# Altium schematic symbol library Integrated circuits.SchLib: 329 symbols (part 2 of 5)
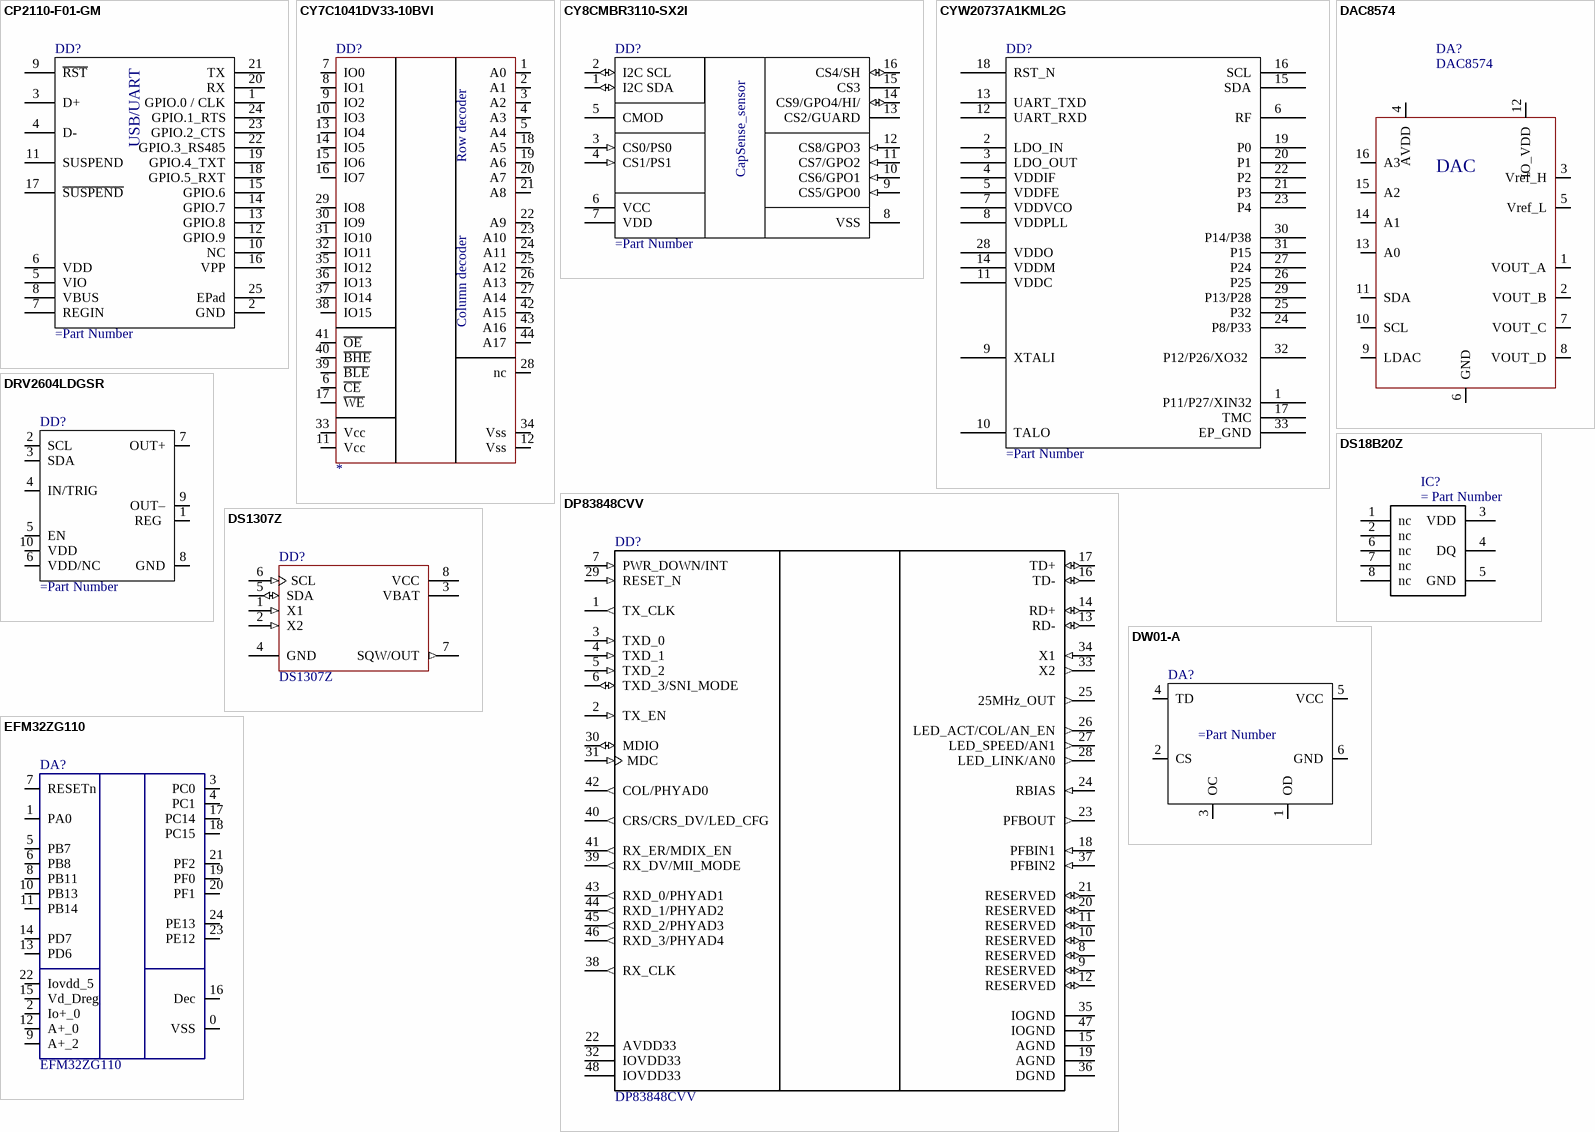
[diagram p26: symbols CP2110-F01-GM to EFM32ZG110]

## CP2110-F01-GM
designator DD?
pins: 1 GPIO.0 / CLK, 2 GND, 3 D+, 4 D-, 5 VIO, 6 VDD, 7 REGIN, 8 VBUS, 9 ~{RST}, 10 NC, 11 SUSPEND, 12 GPIO.9, 13 GPIO.8, 14 GPIO.7, 15 GPIO.6, 16 VPP, 17 ~{SUSPEND}, 18 GPIO.5_RXT, 19 GPIO.4_TXT, 20 RX, 21 TX, 22 GPIO.3_RS485, 23 GPIO.2_CTS, 24 GPIO.1_RTS, 25 EPad
text: USB/UART

## CY7C1041DV33-10BVI
designator DD?
pins: 1 A0, 2 A1, 3 A2, 4 A3, 5 A4, 6 ~{CE}, 7 IO0, 8 IO1, 9 IO2, 10 IO3, 11 Vcc, 12 Vss, 13 IO4, 14 IO5, 15 IO6, 16 IO7, 17 ~{WE}, 18 A5, 19 A6, 20 A7, 21 A8, 22 A9, 23 A10, 24 A11, 25 A12, 26 A13, 27 A14, 28 nc, 29 IO8, 30 IO9, 31 IO10, 32 IO11, 33 Vcc, 34 Vss, 35 IO12, 36 IO13, 37 IO14, 38 IO15, 39 ~{BLE}, 40 ~{BHE}, 41 ~{OE}, 42 A15, 43 A16, 44 A17
text: Row decoder; Column decoder

## CY8CMBR3110-SX2I
designator DD?
pins: 1 I2C SDA (io), 2 I2C SCL (io), 3 CS0/PS0 (in), 4 CS1/PS1 (in), 5 CMOD, 6 VCC, 7 VDD, 8 VSS, 9 CS5/GPO0 (in), 10  CS6/GPO1 (in), 11 CS7/GPO2 (in), 12 CS8/GPO3 (in), 13 CS2/GUARD, 14 CS9/GPO4/HI/ (io), 15 CS3, 16 CS4/SH (io)
text: CapSense_sensor

## CYW20737A1KML2G
designator DD?
pins: 1 P11/P27/XIN32, 2 LDO_IN , 3 LDO_OUT , 4 VDDIF , 5 VDDFE , 6 RF, 7 VDDVCO, 8 VDDPLL , 9 XTALI, 10 TALO, 11 VDDC, 12 UART_RXD , 13 UART_TXD, 14 VDDM, 15 SDA, 16 SCL, 17 TMC, 18 RST_N, 19 P0, 20 P1, 21 P3, 22 P2, 23 P4, 24 P8/P33, 25 P32, 26 P25, 27 P24, 28 VDDO, 29 P13/P28, 30 P14/P38, 31 P15, 32 P12/P26/XO32 , 33 EP_GND

## DAC8574
designator DA?
pins: 1 VOUT_A, 2 VOUT_B, 3 Vref_H, 4 AVDD, 5 Vref_L, 6 GND, 7 VOUT_C, 8 VOUT_D, 9 LDAC, 10 SCL, 11 SDA, 12 IO_VDD, 13 A0, 14 A1, 15 A2, 16 A3
text: DAC

## DP83848CVV
designator DD?
PHYTER® Commercial Temperature Single Port 10/100 Mb/s Ethernet Physical Layer Transceiver, 48-pin LQFP; Manufacturer: National Semiconductor; PackageTopMarking: NSUZXYTT*DP83848VV*VBC; PowerWise: N; CompType: Interface IC; Published: 4-Dec-2008; DatasheetVersion: May-2008; PackageVersion: revE, May-2007; PackageReference: VBH48A; Publisher: Altium Limited; PackageDescription: LQFP, 7 x 7 x 1.4mm, 48 Lead, 0.5mm Pitch; Supplier 1: Farnell; Supplier Part Number 1: 1286816; Supplier 2: Farnell; Supplier Part Number 2: 1528379; PartNumber: DP83848CVV; RoHS: Y; PinCount: 48; ComponentLink1Description: DP83848C Datasheet; ComponentLink1URL: http://www.national.com/ds/DP/DP83848C.pdf; ComponentLink2Description: DP83848C Web Page; ComponentLink2URL: http://www.national.com/pf/DP/DP83848C.html; ComponentLink3Description: VBH48A Package Page; ComponentLink3URL: http://www.national.com/packaging/folders/vbh48a.html
footprint VBH48A_N (Thin QFP, 48-Leads, Body 7x7mm, Pitch 0.5mm, IPC Medium Density)
footprint VBH48A_L (Thin QFP, 48-Leads, Body 7x7mm, Pitch 0.5mm, IPC High Density)
footprint VBH48A_M (Thin QFP, 48-Leads, Body 7x7mm, Pitch 0.5mm, IPC Low Density)
pins: 1 TX_CLK (out), 2 TX_EN (in), 3 TXD_0 (in), 4 TXD_1 (in), 5 TXD_2 (in), 6 TXD_3/SNI_MODE (io), 7 PWR_DOWN/INT (in), 8 RESERVED (io), 9 RESERVED (io), 10 RESERVED (io), 11 RESERVED (io), 12 RESERVED (io), 13 RD- (io), 14 RD+ (io), 15 AGND (power), 16 TD- (io), 17 TD+ (io), 18 PFBIN1 (in), 19 AGND (power), 20 RESERVED (io), 21 RESERVED (io), 22 AVDD33 (power), 23 PFBOUT (out), 24 RBIAS (in), 25 25MHz_OUT (out), 26 LED_ACT/COL/AN_EN (out), 27 LED_SPEED/AN1 (out), 28 LED_LINK/AN0 (out), 29 RESET_N (in), 30 MDIO (io), 31 MDC (in), 32 IOVDD33 (power), 33 X2 (out), 34 X1 (in), 35 IOGND (power), 36 DGND (power), 37 PFBIN2 (in), 38 RX_CLK (out), 39 RX_DV/MII_MODE (out), 40 CRS/CRS_DV/LED_CFG (out), 41 RX_ER/MDIX_EN (out), 42 COL/PHYAD0 (out), 43 RXD_0/PHYAD1 (out), 44 RXD_1/PHYAD2 (out), 45 RXD_2/PHYAD3 (out), 46 RXD_3/PHYAD4 (out), 47 IOGND (power), 48 IOVDD33 (power)

## DRV2604LDGSR
designator DD?
pins: 1 REG , 2 SCL, 3 SDA , 4 IN/TRIG, 5 EN , 6 VDD/NC, 7 OUT+, 8 GND, 9 OUT–, 10 VDD 

## DS18B20Z
designator IC?
Integrated Circuit; Manufacturer_Name: Maxim Integrated; Manufacturer_Part_Number: DS18B20Z+; Datasheet Link: http://datasheets.maximintegrated.com/en/ds/DS18B20.pdf; Height: 1.75mm; Arrow Part Number: DS18B20Z+; Mouser Part Number: 700-DS18B20Z; Mouser Price/Stock: https://www.mouser.co.uk/ProductDetail/Maxim-Integrated/DS18B20Z%2b?qs=7H2Jq%252ByxpJL2uDe5ZHUfmA%3D%3D
footprint SOIC127P600X175-8N
pins: 1 nc, 2 nc, 3 VDD, 4 DQ, 5 GND, 6 nc, 7 nc, 8 nc

## DS1307Z
designator DD?
64 X 8 Serial Real-Time Clock; Published: 13-Oct-2000; LatestRevisionDate: 13-Apr-2006; LatestRevisionNote: IPC-7351 Footprint Added.; DatasheetVersion: 10-Aug-1999; PackageVersion: 1999; PackageReference: SOIC8N; Publisher: Altium Limited; PackageDescription: 8-Pin Small Outline Integrated Circuit 1.27 mm Pitch; Code_IPC: SOIC127P600-8; ComponentLink1Description: Manufacturer Link; ComponentLink1URL: http://www.maxim-ic.com/; ComponentLink2Description: Datasheet; ComponentLink2URL: http://pdfserv.maxim-ic.com/en/ds/DS1307.pdf; ComponentLink3Description: Discontinuation Notice; ComponentLink3URL: http://www.maxim-ic.com/qa/pdfs/non-obsolescence-letter.pdf
pins: 1 X1 (in), 2 X2 (in), 3 VBAT (power), 4 GND (power), 5 SDA (io), 6 SCL (in), 7 SQW/OUT (out), 8 VCC (power)

## DW01-A
designator DA?
Integrated Circuit; Manufacturer_Name: SII Semiconductor; Manufacturer_Part_Number: DW01A-G; Datasheet Link: http://www.ic-fortune.com/upload/Download/DW01x-DS-17_EN.pdf; Height: 1.45mm
footprint SOT95P190X145-6N
pins: 1 OD, 2 CS, 3 OC, 4 TD, 5 VCC, 6 GND

## EFM32ZG110
designator DA?
IC MCU 32BIT 32K FLASH 24QFN
pins: 0 VSS "Ground.", 1 PA0, 2 Io+_0 "Digital IO power supply 0.", 3 PC0 "ACMP0_CH0", 4 PC1 "ACMP0_CH1", 5 PB7 "LFXTAL_P", 6 PB8 "LFXTAL_N", 7 RESETn "Reset input, active low.", 8 PB11 "IDAC0_OUT", 9 A+_2 "Analog power supply 2.", 10 PB13 "HFXTAL_P", 11 PB14 "HFXTAL_N", 12 A+_0 "Analog power supply 0.", 13 PD6 "ADC0_CH6", 14 PD7 "ADC0_CH7", 15 Vd_Dreg "Power supply for on-chip voltage regulator.", 16 Dec "Decouple output for on-chip voltage regulator. An external capacitance of size CDECOUPLE is required at this pin.", 17 PC14, 18 PC15, 19 PF0, 20 PF1, 21 PF2, 22 Iovdd_5 "Digital IO power supply 5.", 23 PE12, 24 PE13

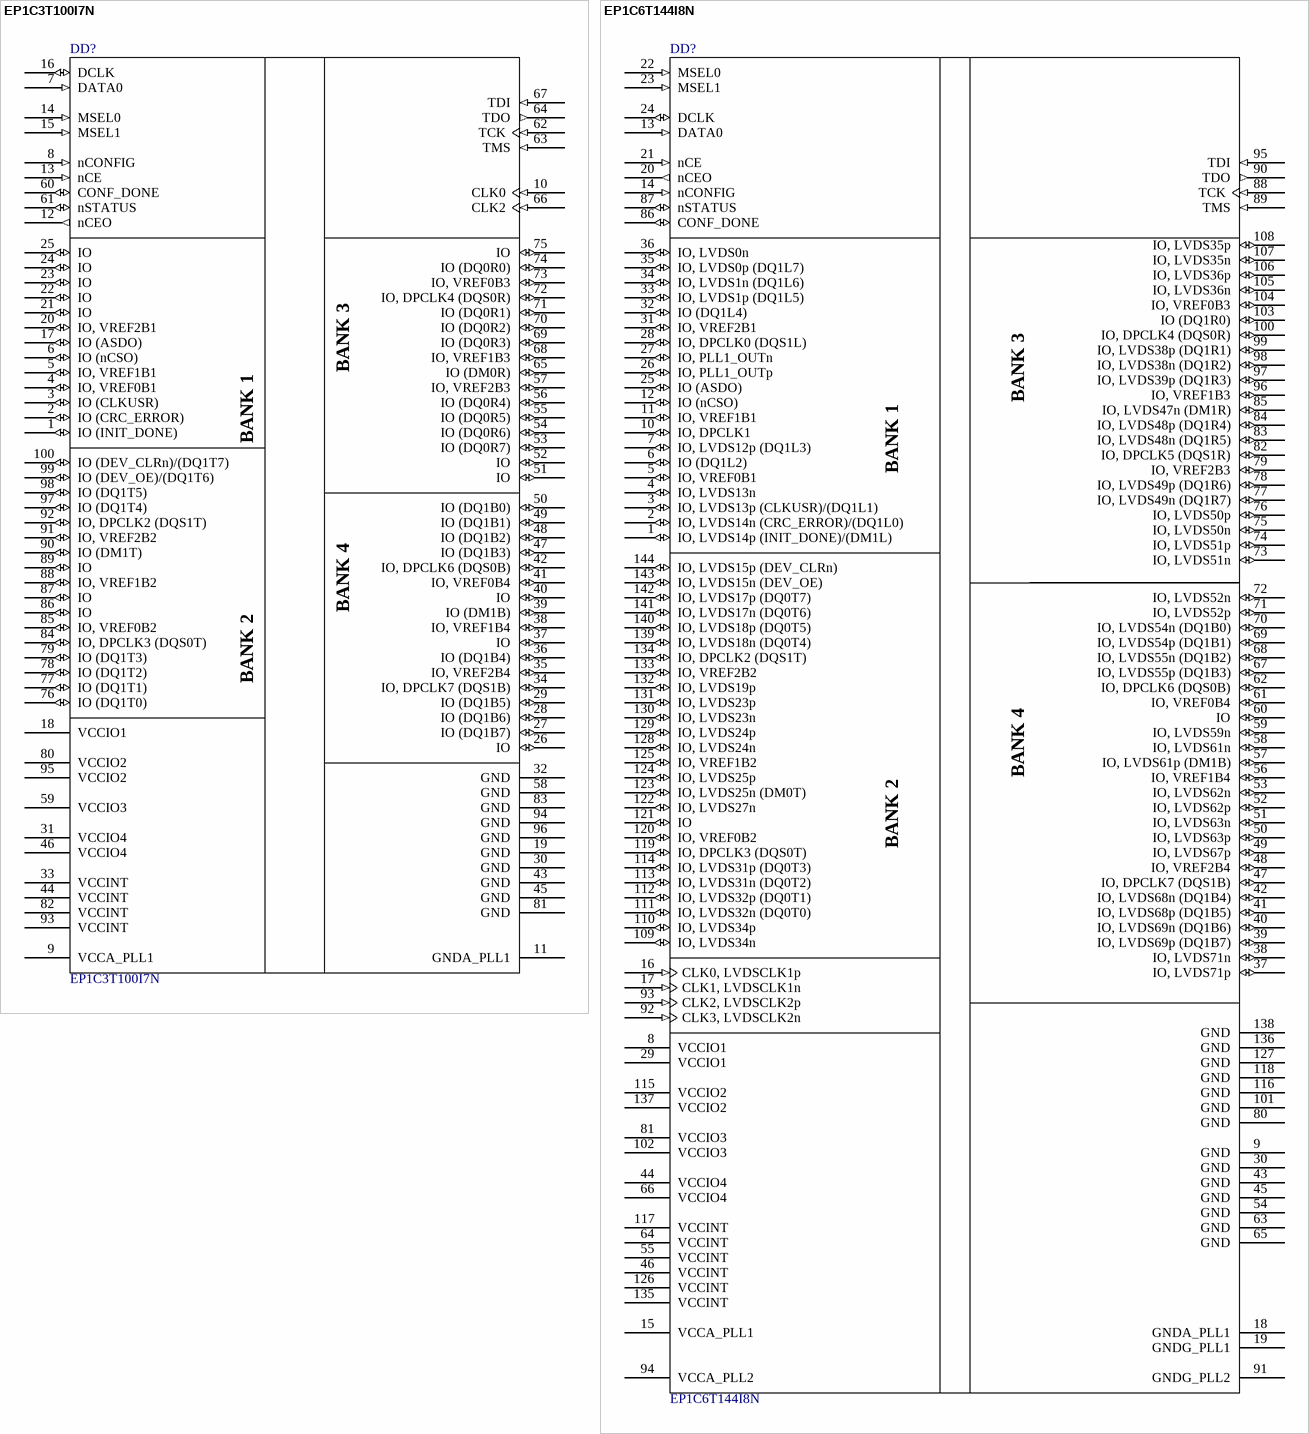
[diagram p8: symbols EP1C3T100I7N to EP1C6T144I8N]

## EP1C3T100I7N
designator DD?
Cyclone Family, 1.5V FPGA, 65 I/O Pins, 1 x PLL, Industrial Grade, Speed Grade 7, Pb-Free; Published: 18-Aug-2005; LatestRevisionDate: 13-Apr-2006; LatestRevisionNote: Pin 2 name fix, IPC-7351 Footprint Added.; DatasheetVersion: ver2.4, May-2008; PackageVersion: ver15.1, May-2008; PackageReference: TQFP100; Publisher: Altium Limited; PackageDescription: 100-Pin Plastic Thin Quad Flat Pack (TQFP100) - Wire Bond; Supplier 1: Digi-Key; Supplier Part Number 1: 544-1663-ND; Supplier 2: Farnell; Supplier Part Number 2: 1453494; Code_JEDEC: MS-026-AED; ComponentLink1Description: Manufacturer Link; ComponentLink1URL: http://www.altera.com/products/devices/cyclone/cyc-index.jsp; ComponentLink2Description: Handbook; ComponentLink2URL: http://www.altera.com/literature/hb/cyc/cyc_c5v1.pdf; ComponentLink3Description: Packaging Specification; ComponentLink3URL: http://www.altera.com/literature/ds/dspkg.pdf
footprint TQFP100_N (Thin QFP, 100-Leads, Body 14x14mm, Pitch 0.5mm, IPC Medium Density)
footprint TQFP100_L (Thin QFP, 100-Leads, Body 14x14mm, Pitch 0.5mm, IPC High Density)
footprint TQFP100_M (Thin QFP, 100-Leads, Body 14x14mm, Pitch 0.5mm, IPC Low Density)
3D model EP1C3-TQFP100 (100-Pin Plastic Thin Quad Flat Pack (TQFP100) - Wire Bond)
signal-integrity model 1c (Cyclone)
pins: 1 IO (INIT_DONE) (io), 2 IO (CRC_ERROR) (io), 3 IO (CLKUSR) (io), 4 IO, VREF0B1 (io), 5 IO, VREF1B1 (io), 6 IO (nCSO) (io), 7 DATA0 (in), 8 nCONFIG (in), 9 VCCA_PLL1 (power), 10 CLK0 (in), 11 GNDA_PLL1 (power), 12 nCEO (out), 13 nCE (in), 14 MSEL0 (in), 15 MSEL1 (in), 16 DCLK (io), 17 IO (ASDO) (io), 18 VCCIO1 (power), 19 GND (power), 20 IO, VREF2B1 (io), 21 IO (io), 22 IO (io), 23 IO (io), 24 IO (io), 25 IO (io), 26 IO (io), 27 IO (DQ1B7) (io), 28 IO (DQ1B6) (io), 29 IO (DQ1B5) (io), 30 GND (power), 31 VCCIO4 (power), 32 GND (power), 33 VCCINT (power), 34 IO, DPCLK7 (DQS1B) (io), 35 IO, VREF2B4 (io), 36 IO (DQ1B4) (io), 37 IO (io), 38 IO, VREF1B4 (io), 39 IO (DM1B) (io), 40 IO (io), 41 IO, VREF0B4 (io), 42 IO, DPCLK6 (DQS0B) (io), 43 GND (power), 44 VCCINT (power), 45 GND (power), 46 VCCIO4 (power), 47 IO (DQ1B3) (io), 48 IO (DQ1B2) (io), 49 IO (DQ1B1) (io), 50 IO (DQ1B0) (io), 51 IO (io), 52 IO (io), 53 IO (DQ0R7) (io), 54 IO (DQ0R6) (io), 55 IO (DQ0R5) (io), 56 IO (DQ0R4) (io), 57 IO, VREF2B3 (io), 58 GND (power), 59 VCCIO3 (power), 60 CONF_DONE (io), 61 nSTATUS (io), 62 TCK (in), 63 TMS (in), 64 TDO (out), 65 IO (DM0R) (io), 66 CLK2 (in), 67 TDI (in), 68 IO, VREF1B3 (io), 69 IO (DQ0R3) (io), 70 IO (DQ0R2) (io), 71 IO (DQ0R1) (io), 72 IO, DPCLK4 (DQS0R) (io), 73 IO, VREF0B3 (io), 74 IO (DQ0R0) (io), 75 IO (io), 76 IO (DQ1T0) (io), 77 IO (DQ1T1) (io), 78 IO (DQ1T2) (io), 79 IO (DQ1T3) (io), 80 VCCIO2 (power), 81 GND (power), 82 VCCINT (power), 83 GND (power), 84 IO, DPCLK3 (DQS0T) (io), 85 IO, VREF0B2 (io), 86 IO (io), 87 IO (io), 88 IO, VREF1B2 (io), 89 IO (io), 90 IO (DM1T) (io), 91 IO, VREF2B2 (io), 92 IO, DPCLK2 (DQS1T) (io), 93 VCCINT (power), 94 GND (power), 95 VCCIO2 (power), 96 GND (power), 97 IO (DQ1T4) (io), 98 IO (DQ1T5) (io), 99 IO (DEV_OE)/(DQ1T6) (io), 100 IO (DEV_CLRn)/(DQ1T7) (io)
text: BANK 1; BANK 3; BANK 2; BANK 4

## EP1C6T144I8N
designator DD?
Cyclone Family, 1.5V FPGA, 98 I/O Pins, 2 x PLLs, Industrial Grade, Speed Grade 8, Pb-Free; Published: 18-Aug-2005; LatestRevisionDate: 13-Apr-2006; LatestRevisionNote: Pin 2 name fix, IPC-7351 Footprint Added.; DatasheetVersion: ver2.4, May-2008; PackageVersion: ver15.4, Dec-2008; PackageReference: TQFP144; Publisher: Altium Limited; PackageDescription: 144-Pin Plastic Thin Quad Flat Pack (TQFP144) - Wire Bond; Code_JEDEC: MS-026-BFB; ComponentLink1Description: Manufacturer Link; ComponentLink1URL: http://www.altera.com/products/devices/cyclone/cyc-index.jsp; ComponentLink2Description: Handbook; ComponentLink2URL: http://www.altera.com/literature/hb/cyc/cyc_c5v1.pdf; ComponentLink3Description: Packaging Specification; ComponentLink3URL: http://www.altera.com/literature/ds/dspkg.pdf
footprint TQFP144_N (Thin QFP, 144-Leads, Body 20x20mm, Pitch 0.5mm, IPC Medium Density)
footprint TQFP144_L (Thin QFP, 144-Leads, Body 20x20mm, Pitch 0.5mm, IPC High Density)
footprint TQFP144_M (Thin QFP, 144-Leads, Body 20x20mm, Pitch 0.5mm, IPC Low Density)
3D model EP1C6-TQFP144 (144-Pin Plastic Thin Quad Flat Pack (TQFP144) - Wire Bond)
signal-integrity model 1c (Cyclone)
pins: 1 IO, LVDS14p (INIT_DONE)/(DM1L) (io), 2 IO, LVDS14n (CRC_ERROR)/(DQ1L0) (io), 3 IO, LVDS13p (CLKUSR)/(DQ1L1) (io), 4 IO, LVDS13n (io), 5 IO, VREF0B1 (io), 6 IO (DQ1L2) (io), 7 IO, LVDS12p (DQ1L3) (io), 8 VCCIO1 (power), 9 GND (power), 10 IO, DPCLK1 (io), 11 IO, VREF1B1 (io), 12 IO (nCSO) (io), 13 DATA0 (in), 14 nCONFIG (in), 15 VCCA_PLL1 (power), 16 CLK0, LVDSCLK1p (in), 17 CLK1, LVDSCLK1n (in), 18 GNDA_PLL1 (power), 19 GNDG_PLL1 (power), 20 nCEO (out), 21 nCE (in), 22 MSEL0 (in), 23 MSEL1 (in), 24 DCLK (io), 25 IO (ASDO) (io), 26 IO, PLL1_OUTp (io), 27 IO, PLL1_OUTn (io), 28 IO, DPCLK0 (DQS1L) (io), 29 VCCIO1 (power), 30 GND (power), 31 IO, VREF2B1 (io), 32 IO (DQ1L4) (io), 33 IO, LVDS1p (DQ1L5) (io), 34 IO, LVDS1n (DQ1L6) (io), 35 IO, LVDS0p (DQ1L7) (io), 36 IO, LVDS0n (io), 37 IO, LVDS71p (io), 38 IO, LVDS71n (io), 39 IO, LVDS69p (DQ1B7) (io), 40 IO, LVDS69n (DQ1B6) (io), 41 IO, LVDS68p (DQ1B5) (io), 42 IO, LVDS68n (DQ1B4) (io), 43 GND (power), 44 VCCIO4 (power), 45 GND (power), 46 VCCINT (power), 47 IO, DPCLK7 (DQS1B) (io), 48 IO, VREF2B4 (io), 49 IO, LVDS67p (io), 50 IO, LVDS63p (io), 51 IO, LVDS63n (io), 52 IO, LVDS62p (io), 53 IO, LVDS62n (io), 54 GND (power), 55 VCCINT (power), 56 IO, VREF1B4 (io), 57 IO, LVDS61p (DM1B) (io), 58 IO, LVDS61n (io), 59 IO, LVDS59n (io), 60 IO (io), 61 IO, VREF0B4 (io), 62 IO, DPCLK6 (DQS0B) (io), 63 GND (power), 64 VCCINT (power), 65 GND (power), 66 VCCIO4 (power), 67 IO, LVDS55p (DQ1B3) (io), 68 IO, LVDS55n (DQ1B2) (io), 69 IO, LVDS54p (DQ1B1) (io), 70 IO, LVDS54n (DQ1B0) (io), 71 IO, LVDS52p (io), 72 IO, LVDS52n (io), 73 IO, LVDS51n (io), 74 IO, LVDS51p (io), 75 IO, LVDS50n (io), 76 IO, LVDS50p (io), 77 IO, LVDS49n (DQ1R7) (io), 78 IO, LVDS49p (DQ1R6) (io), 79 IO, VREF2B3 (io), 80 GND (power), 81 VCCIO3 (power), 82 IO, DPCLK5 (DQS1R) (io), 83 IO, LVDS48n (DQ1R5) (io), 84 IO, LVDS48p (DQ1R4) (io), 85 IO, LVDS47n (DM1R) (io), 86 CONF_DONE (io), 87 nSTATUS (io), 88 TCK (in), 89 TMS (in), 90 TDO (out), 91 GNDG_PLL2 (power), 92 CLK3, LVDSCLK2n (in), 93 CLK2, LVDSCLK2p (in), 94 VCCA_PLL2 (power), 95 TDI (in), 96 IO, VREF1B3 (io), 97 IO, LVDS39p (DQ1R3) (io), 98 IO, LVDS38n (DQ1R2) (io), 99 IO, LVDS38p (DQ1R1) (io), 100 IO, DPCLK4 (DQS0R) (io), 101 GND (power), 102 VCCIO3 (power), 103 IO (DQ1R0) (io), 104 IO, VREF0B3 (io), 105 IO, LVDS36n (io), 106 IO, LVDS36p (io), 107 IO, LVDS35n (io), 108 IO, LVDS35p (io), 109 IO, LVDS34n (io), 110 IO, LVDS34p (io), 111 IO, LVDS32n (DQ0T0) (io), 112 IO, LVDS32p (DQ0T1) (io), 113 IO, LVDS31n (DQ0T2) (io), 114 IO, LVDS31p (DQ0T3) (io), 115 VCCIO2 (power), 116 GND (power), 117 VCCINT (power), 118 GND (power), 119 IO, DPCLK3 (DQS0T) (io), 120 IO, VREF0B2 (io), 121 IO (io), 122 IO, LVDS27n (io), 123 IO, LVDS25n (DM0T) (io), 124 IO, LVDS25p (io), 125 IO, VREF1B2 (io), 126 VCCINT (power), 127 GND (power), 128 IO, LVDS24n (io), 129 IO, LVDS24p (io), 130 IO, LVDS23n (io), 131 IO, LVDS23p (io), 132 IO, LVDS19p (io), 133 IO, VREF2B2 (io), 134 IO, DPCLK2 (DQS1T) (io), 135 VCCINT (power), 136 GND (power), 137 VCCIO2 (power), 138 GND (power), 139 IO, LVDS18n (DQ0T4) (io), 140 IO, LVDS18p (DQ0T5) (io), 141 IO, LVDS17n (DQ0T6) (io), 142 IO, LVDS17p (DQ0T7) (io), 143 IO, LVDS15n (DEV_OE) (io), 144 IO, LVDS15p (DEV_CLRn) (io)
text: BANK 1; BANK 3; BANK 2; BANK 4

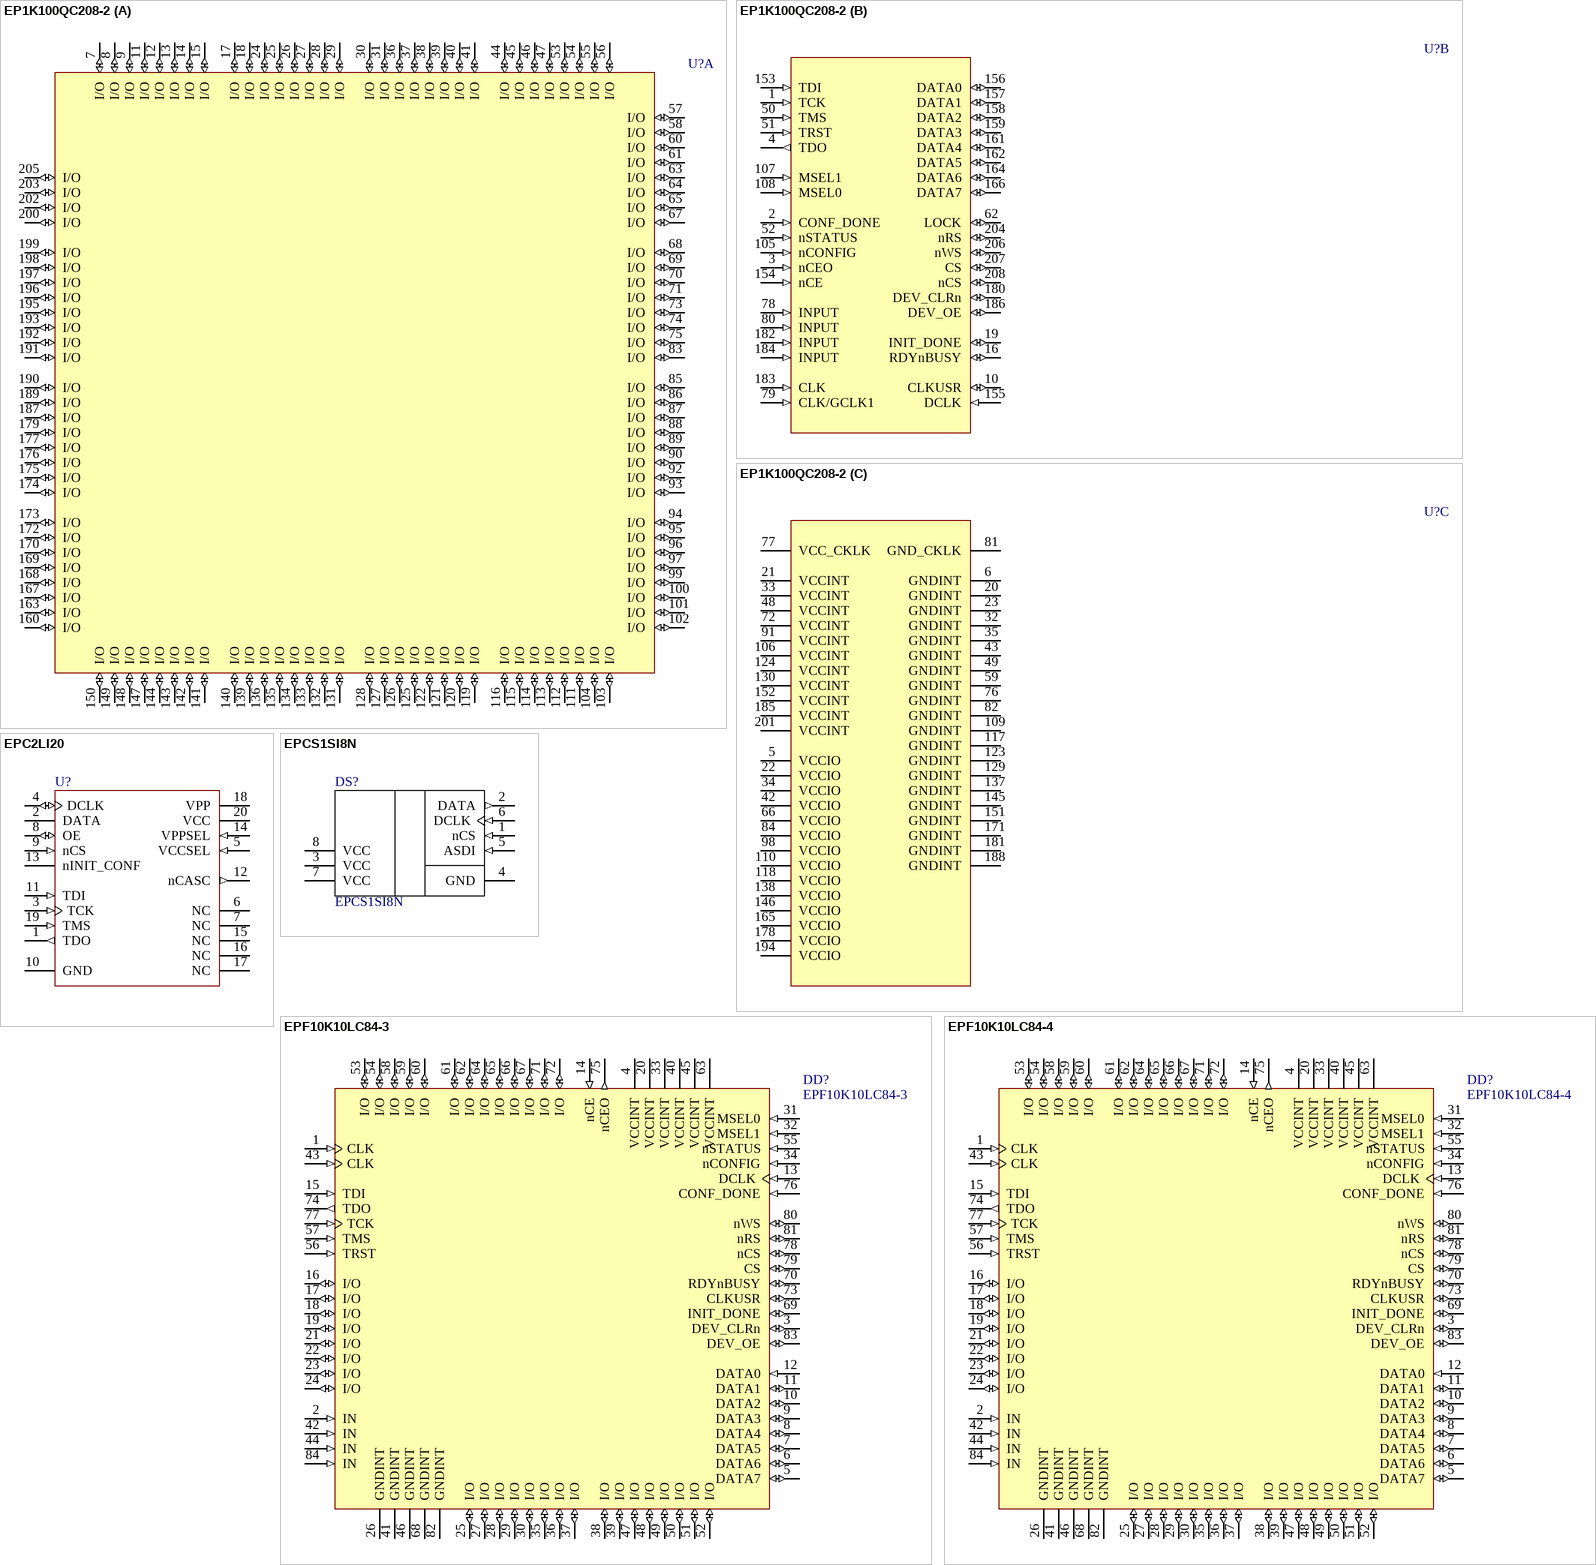
[diagram p9: symbols EP1K100QC208-2 to EPF10K10LC84-4]

## EP1K100QC208-2
designator U?
ACEX 1K PLD with 147 I/O Pins, 208-Pin PQFP, Commercial Grade, Speed Grade 2; Published: 17-Jul-2002; LatestRevisionDate: 13-Apr-2006; LatestRevisionNote: IPC-7351 Footprint Added.; DatasheetVersion: ver3.4, May-2003; PackageVersion: ver15.4, Dec-2008; PackageReference: PQFP208; Publisher: Altium Limited; PackageDescription: 208-Pin Plastic Quad Flat Pack (PQFP208) - Wire Bond; Supplier 1: Digi-Key; Supplier Part Number 1: 544-1001-ND; Code_JEDEC: MS-029-FA-1; ComponentLink1Description: Manufacturer Link; ComponentLink1URL: http://www.altera.com/products/devices/acex/acx-index.html; ComponentLink2Description: Datasheet; ComponentLink2URL: http://www.altera.com/literature/ds/acex.pdf
footprint PQFP208_N (Shrink QFP, 208-Leads, Body 28x28mm, Pitch 0.5mm, IPC Medium Density)
footprint PQFP208_L (Shrink QFP, 208-Leads, Body 28x28mm, Pitch 0.5mm, IPC High Density)
footprint PQFP208_M (Shrink QFP, 208-Leads, Body 28x28mm, Pitch 0.5mm, IPC Low Density)
3D model EP1K100-PQFP208 (208-Pin Plastic Quad Flat Pack (PQFP208) - Wire Bond)
part A pins: 7 I/O (io), 8 I/O (io), 9 I/O (io), 11 I/O (io), 12 I/O (io), 13 I/O (io), 14 I/O (io), 15 I/O (io), 17 I/O (io), 18 I/O (io), 24 I/O (io), 25 I/O (io), 26 I/O (io), 27 I/O (io), 28 I/O (io), 29 I/O (io), 30 I/O (io), 31 I/O (io), 36 I/O (io), 37 I/O (io), 38 I/O (io), 39 I/O (io), 40 I/O (io), 41 I/O (io), 44 I/O (io), 45 I/O (io), 46 I/O (io), 47 I/O (io), 53 I/O (io), 54 I/O (io), 55 I/O (io), 56 I/O (io), 57 I/O (io), 58 I/O (io), 60 I/O (io), 61 I/O (io), 63 I/O (io), 64 I/O (io), 65 I/O (io), 67 I/O (io), 68 I/O (io), 69 I/O (io), 70 I/O (io), 71 I/O (io), 73 I/O (io), 74 I/O (io), 75 I/O (io), 83 I/O (io), 85 I/O (io), 86 I/O (io), 87 I/O (io), 88 I/O (io), 89 I/O (io), 90 I/O (io), 92 I/O (io), 93 I/O (io), 94 I/O (io), 95 I/O (io), 96 I/O (io), 97 I/O (io), 99 I/O (io), 100 I/O (io), 101 I/O (io), 102 I/O (io), 103 I/O (io), 104 I/O (io), 111 I/O (io), 112 I/O (io), 113 I/O (io), 114 I/O (io), 115 I/O (io), 116 I/O (io), 119 I/O (io), 120 I/O (io), 121 I/O (io), 122 I/O (io), 125 I/O (io), 126 I/O (io), 127 I/O (io), 128 I/O (io), 131 I/O (io), 132 I/O (io), 133 I/O (io), 134 I/O (io), 135 I/O (io), 136 I/O (io), 139 I/O (io), 140 I/O (io), 141 I/O (io), 142 I/O (io), 143 I/O (io), 144 I/O (io), 147 I/O (io), 148 I/O (io), 149 I/O (io), 150 I/O (io), 160 I/O (io), 163 I/O (io), 167 I/O (io), 168 I/O (io), 169 I/O (io), 170 I/O (io), 172 I/O (io), 173 I/O (io), 174 I/O (io), 175 I/O (io), 176 I/O (io), 177 I/O (io), 179 I/O (io), 187 I/O (io), 189 I/O (io), 190 I/O (io), 191 I/O (io), 192 I/O (io), 193 I/O (io), 195 I/O (io), 196 I/O (io), 197 I/O (io), 198 I/O (io), 199 I/O (io), 200 I/O (io), 202 I/O (io), 203 I/O (io), 205 I/O (io)
part B pins: 1 TCK (in), 2 CONF_DONE (in), 3 nCEO (in), 4 TDO (out), 10 CLKUSR (io), 16 RDYnBUSY (io), 19 INIT_DONE (io), 50 TMS (in), 51 TRST (in), 52 nSTATUS (in), 62 LOCK (io), 78 INPUT (in), 79 CLK/GCLK1 (in), 80 INPUT (in), 105 nCONFIG (in), 107 MSEL1 (in), 108 MSEL0 (in), 153 TDI (in), 154 nCE (in), 155 DCLK (in), 156 DATA0 (io), 157 DATA1 (io), 158 DATA2 (io), 159 DATA3 (io), 161 DATA4 (io), 162 DATA5 (io), 164 DATA6 (io), 166 DATA7 (io), 180 DEV_CLRn (io), 182 INPUT (in), 183 CLK (in), 184 INPUT (in), 186 DEV_OE (io), 204 nRS (io), 206 nWS (io), 207 CS (io), 208 nCS (io)
part C pins: 5 VCCIO (power), 6 GNDINT (power), 20 GNDINT (power), 21 VCCINT (power), 22 VCCIO (power), 23 GNDINT (power), 32 GNDINT (power), 33 VCCINT (power), 34 VCCIO (power), 35 GNDINT (power), 42 VCCIO (power), 43 GNDINT (power), 48 VCCINT (power), 49 GNDINT (power), 59 GNDINT (power), 66 VCCIO (power), 72 VCCINT (power), 76 GNDINT (power), 77 VCC_CKLK (power), 81 GND_CKLK (power), 82 GNDINT (power), 84 VCCIO (power), 91 VCCINT (power), 98 VCCIO (power), 106 VCCINT (power), 109 GNDINT (power), 110 VCCIO (power), 117 GNDINT (power), 118 VCCIO (power), 123 GNDINT (power), 124 VCCINT (power), 129 GNDINT (power), 130 VCCINT (power), 137 GNDINT (power), 138 VCCIO (power), 145 GNDINT (power), 146 VCCIO (power), 151 GNDINT (power), 152 VCCINT (power), 165 VCCIO (power), 171 GNDINT (power), 178 VCCIO (power), 181 GNDINT (power), 185 VCCINT (power), 188 GNDINT (power), 194 VCCIO (power), 201 VCCINT (power)

## EPC2LI20
designator U?
EPC2 Series, In-system programmable 3.3 or 5V configuration device, 20-Pin PLCC, 1.6-Megabit, Industrial Grade; Configures: Stratix II, Stratix, Stratix GX, Cyclone II, Cyclone, APEX II, APEX, FLEX, Mercury, ACEX, and Excalibur Devices; Published: 17-Sep-2003; LatestRevisionDate: 13-Apr-2006; LatestRevisionNote: IPC-7351 Footprint Added.; DatasheetVersion: ver2.0, Oct-2003; PackageVersion: ver14.2, Oct-2005; PackageReference: PLCC20; Publisher: Altium Limited; PackageDescription: 20-Pin Plastic J-Lead Chip Carrier (PLCC20); Supplier 1: Digi-Key; Supplier Part Number 1: 544-1234-5-ND; Code_JEDEC: MS-018-AA; Code_IPC: PLCC-20; ComponentLink1Description: Manufacturer Link; ComponentLink1URL: http://www.altera.com/products/devices/config/cfg-index.html; ComponentLink2Description: Configuration Handbook; ComponentLink2URL: http://www.altera.com/literature/hb/cfg/config_handbook.pdf; ComponentLink3Description: Pinout Specification; ComponentLink3URL: http://www.altera.com/literature/hb/cfg/cfg_cf52004.pdf; ComponentLink4Description: Packaging Specification; ComponentLink4URL: http://www.altera.com/literature/ds/dspkg.pdf
footprint PLCC20_N (Leaded Chip Carrier, 20-Leads, Body 9x9mm, Pitch 1.27mm, IPC Medium Density)
footprint PLCC20_L (Leaded Chip Carrier, 20-Leads, Body 9x9mm, Pitch 1.27mm, IPC High Density)
footprint PLCC20_M (Leaded Chip Carrier, 20-Leads, Body 9x9mm, Pitch 1.27mm, IPC Low Density)
3D model EPC2-PLCC20 (20-Pin Plastic J-Lead Chip Carrier (PLCC20))
pins: 1 TDO (out) "JTAG data output pin", 2 DATA (hiz) "Serial data out", 3 TCK (in) "JTAG clock pin", 4 DCLK (io), 5 VCCSEL (in) "Mode select for VCC", 6 NC "No Connect", 7 NC "No Connect", 8 OE (io) "Output enable, and active low reset", 9 nCS (in) "Active low, chip select input", 10 GND (power) "Ground", 11 TDI (in) "JTAG data input pin", 12 nCASC (out) "Active low, cascade select output", 13 nINIT_CONF (oc), 14 VPPSEL (in) "Mode select for VPP", 15 NC "No Connect", 16 NC "No Connect", 17 NC "No Connect", 18 VPP (power) "Programming power pin", 19 TMS (in) "JTAG mode select pin", 20 VCC (power) "Power Supply"

## EPCS1SI8N
designator DS?
EPCS1 Series, In-system programmable 3.3V serial configuration device, 8-Pin SOIC, 1-Megabit, Industrial Grade; Configures: Cyclone II, Stratix II, & Cyclone Devices; Published: 17-Sep-2003; LatestRevisionDate: 13-Apr-2006; LatestRevisionNote: IPC-7351 Footprint Added.; DatasheetVersion: ver2.0, Oct-2003; PackageVersion: ver14.2, Oct-2005; PackageReference: SOIC8; Publisher: Altium Limited; PackageDescription: 8-Pin Small Outline Integrated Circuit Package (SOIC8); Supplier 1: Digi-Key; Supplier Part Number 1: 544-1241-5-ND; Code_JEDEC: MS-012-AA; Code_IPC: SOIC127P600-8; ComponentLink1Description: Manufacturer Link; ComponentLink1URL: http://www.altera.com/products/devices/config/cfg-index.html; ComponentLink2Description: Configuration Handbook; ComponentLink2URL: http://www.altera.com/literature/hb/cfg/config_handbook.pdf; ComponentLink3Description: Pinout Specification; ComponentLink3URL: http://www.altera.com/literature/hb/cfg/cyc_c51014.pdf; ComponentLink4Description: Packaging Specification; ComponentLink4URL: http://www.altera.com/literature/ds/dspkg.pdf
footprint SOIC8_N (SOIC, 8-Leads, Body 4.9x3.9mm, Pitch 1.27mm, IPC Medium Density)
footprint SOIC8_L (SOIC, 8-Leads, Body 4.9x3.9mm, Pitch 1.27mm, IPC High Density)
footprint SOIC8_M (SOIC, 8-Leads, Body 4.9x3.9mm, Pitch 1.27mm, IPC Low Density)
3D model SOIC8 (8-Pin Small Outline Integrated Circuit Package (SOIC8))
pins: 1 nCS (in) "Active low, chip select input", 2 DATA (out) "Serial data out", 3 VCC (power) "3.3V supply", 4 GND (power) "Ground", 5 ASDI (in) "AS data in", 6 DCLK (in) "Provides timing of the serial interface", 7 VCC (power) "3.3V supply", 8 VCC (power) "3.3V supply"

## EPF10K10LC84-3
designator DD?
FLEX EPF10K10 5.0V Embedded PLD, 59 User IO Pins, 84-Pin PLCC, Speed Grade 3, Commercial Grade; Published: 24-Nov-2000; LatestRevisionDate: 13-Apr-2006; LatestRevisionNote: IPC-7351 Footprint Added.; DatasheetVersion: ver4.2, Jan-2003; PackageVersion: ver14.3, Jul-2006; PackageReference: PLCC84; Publisher: Altium Limited; PackageDescription: 84-Pin Plastic J-Lead Chip Carrier (PLCC84); Supplier 1: Digi-Key; Supplier Part Number 1: 544-2194-5-ND; Code_JEDEC: MS-018-AF; Code_IPC: PLCC-84; ComponentLink1Description: Manufacturer Link; ComponentLink1URL: http://www.altera.com/products/devices/flex10k/f10-index.html; ComponentLink2Description: Datasheet; ComponentLink2URL: http://www.altera.com/literature/ds/dsf10k.pdf
pins: 1 CLK (in), 2 IN (in), 3 DEV_CLRn (io), 4 VCCINT (power), 5 DATA7 (io), 6 DATA6 (io), 7 DATA5 (io), 8 DATA4 (io), 9 DATA3 (io), 10 DATA2 (io), 11 DATA1 (io), 12 DATA0 (in), 13 DCLK (in), 14 nCE (in), 15 TDI (in), 16 I/O (io), 17 I/O (io), 18 I/O (io), 19 I/O (io), 20 VCCINT (power), 21 I/O (io), 22 I/O (io), 23 I/O (io), 24 I/O (io), 25 I/O (io), 26 GNDINT (power), 27 I/O (io), 28 I/O (io), 29 I/O (io), 30 I/O (io), 31 MSEL0 (in), 32 MSEL1 (in), 33 VCCINT (power), 34 nCONFIG (in), 35 I/O (io), 36 I/O (io), 37 I/O (io), 38 I/O (io), 39 I/O (io), 40 VCCINT (power), 41 GNDINT (power), 42 IN (in), 43 CLK (in), 44 IN (in), 45 VCCINT (power), 46 GNDINT (power), 47 I/O (io), 48 I/O (io), 49 I/O (io), 50 I/O (io), 51 I/O (io), 52 I/O (io), 53 I/O (io), 54 I/O (io), 55 nSTATUS (in), 56 TRST (in), 57 TMS (in), 58 I/O (io), 59 I/O (io), 60 I/O (io), 61 I/O (io), 62 I/O (io), 63 VCCINT (power), 64 I/O (io), 65 I/O (io), 66 I/O (io), 67 I/O (io), 68 GNDINT (power), 69 INIT_DONE (io), 70 RDYnBUSY (io), 71 I/O (io), 72 I/O (io), 73 CLKUSR (io), 74 TDO (out), 75 nCEO (out), 76 CONF_DONE (in), 77 TCK (in), 78 nCS (io), 79 CS (io), 80 nWS (io), 81 nRS (io), 82 GNDINT (power), 83 DEV_OE (io), 84 IN (in)

## EPF10K10LC84-4
designator DD?
FLEX EPF10K10 5.0V Embedded PLD, 59 User IO Pins, 84-Pin PLCC, Speed Grade 4, Commercial Grade; Published: 24-Nov-2000; LatestRevisionDate: 13-Apr-2006; LatestRevisionNote: IPC-7351 Footprint Added.; DatasheetVersion: ver4.2, Jan-2003; PackageVersion: ver14.3, Jul-2006; PackageReference: PLCC84; Publisher: Altium Limited; PackageDescription: 84-Pin Plastic J-Lead Chip Carrier (PLCC84); Supplier 1: Digi-Key; Supplier Part Number 1: 544-1937-5-ND; Code_JEDEC: MS-018-AF; Code_IPC: PLCC-84; ComponentLink1Description: Manufacturer Link; ComponentLink1URL: http://www.altera.com/products/devices/flex10k/f10-index.html; ComponentLink2Description: Datasheet; ComponentLink2URL: http://www.altera.com/literature/ds/dsf10k.pdf
pins: 1 CLK (in), 2 IN (in), 3 DEV_CLRn (io), 4 VCCINT (power), 5 DATA7 (io), 6 DATA6 (io), 7 DATA5 (io), 8 DATA4 (io), 9 DATA3 (io), 10 DATA2 (io), 11 DATA1 (io), 12 DATA0 (in), 13 DCLK (in), 14 nCE (in), 15 TDI (in), 16 I/O (io), 17 I/O (io), 18 I/O (io), 19 I/O (io), 20 VCCINT (power), 21 I/O (io), 22 I/O (io), 23 I/O (io), 24 I/O (io), 25 I/O (io), 26 GNDINT (power), 27 I/O (io), 28 I/O (io), 29 I/O (io), 30 I/O (io), 31 MSEL0 (in), 32 MSEL1 (in), 33 VCCINT (power), 34 nCONFIG (in), 35 I/O (io), 36 I/O (io), 37 I/O (io), 38 I/O (io), 39 I/O (io), 40 VCCINT (power), 41 GNDINT (power), 42 IN (in), 43 CLK (in), 44 IN (in), 45 VCCINT (power), 46 GNDINT (power), 47 I/O (io), 48 I/O (io), 49 I/O (io), 50 I/O (io), 51 I/O (io), 52 I/O (io), 53 I/O (io), 54 I/O (io), 55 nSTATUS (in), 56 TRST (in), 57 TMS (in), 58 I/O (io), 59 I/O (io), 60 I/O (io), 61 I/O (io), 62 I/O (io), 63 VCCINT (power), 64 I/O (io), 65 I/O (io), 66 I/O (io), 67 I/O (io), 68 GNDINT (power), 69 INIT_DONE (io), 70 RDYnBUSY (io), 71 I/O (io), 72 I/O (io), 73 CLKUSR (io), 74 TDO (out), 75 nCEO (out), 76 CONF_DONE (in), 77 TCK (in), 78 nCS (io), 79 CS (io), 80 nWS (io), 81 nRS (io), 82 GNDINT (power), 83 DEV_OE (io), 84 IN (in)

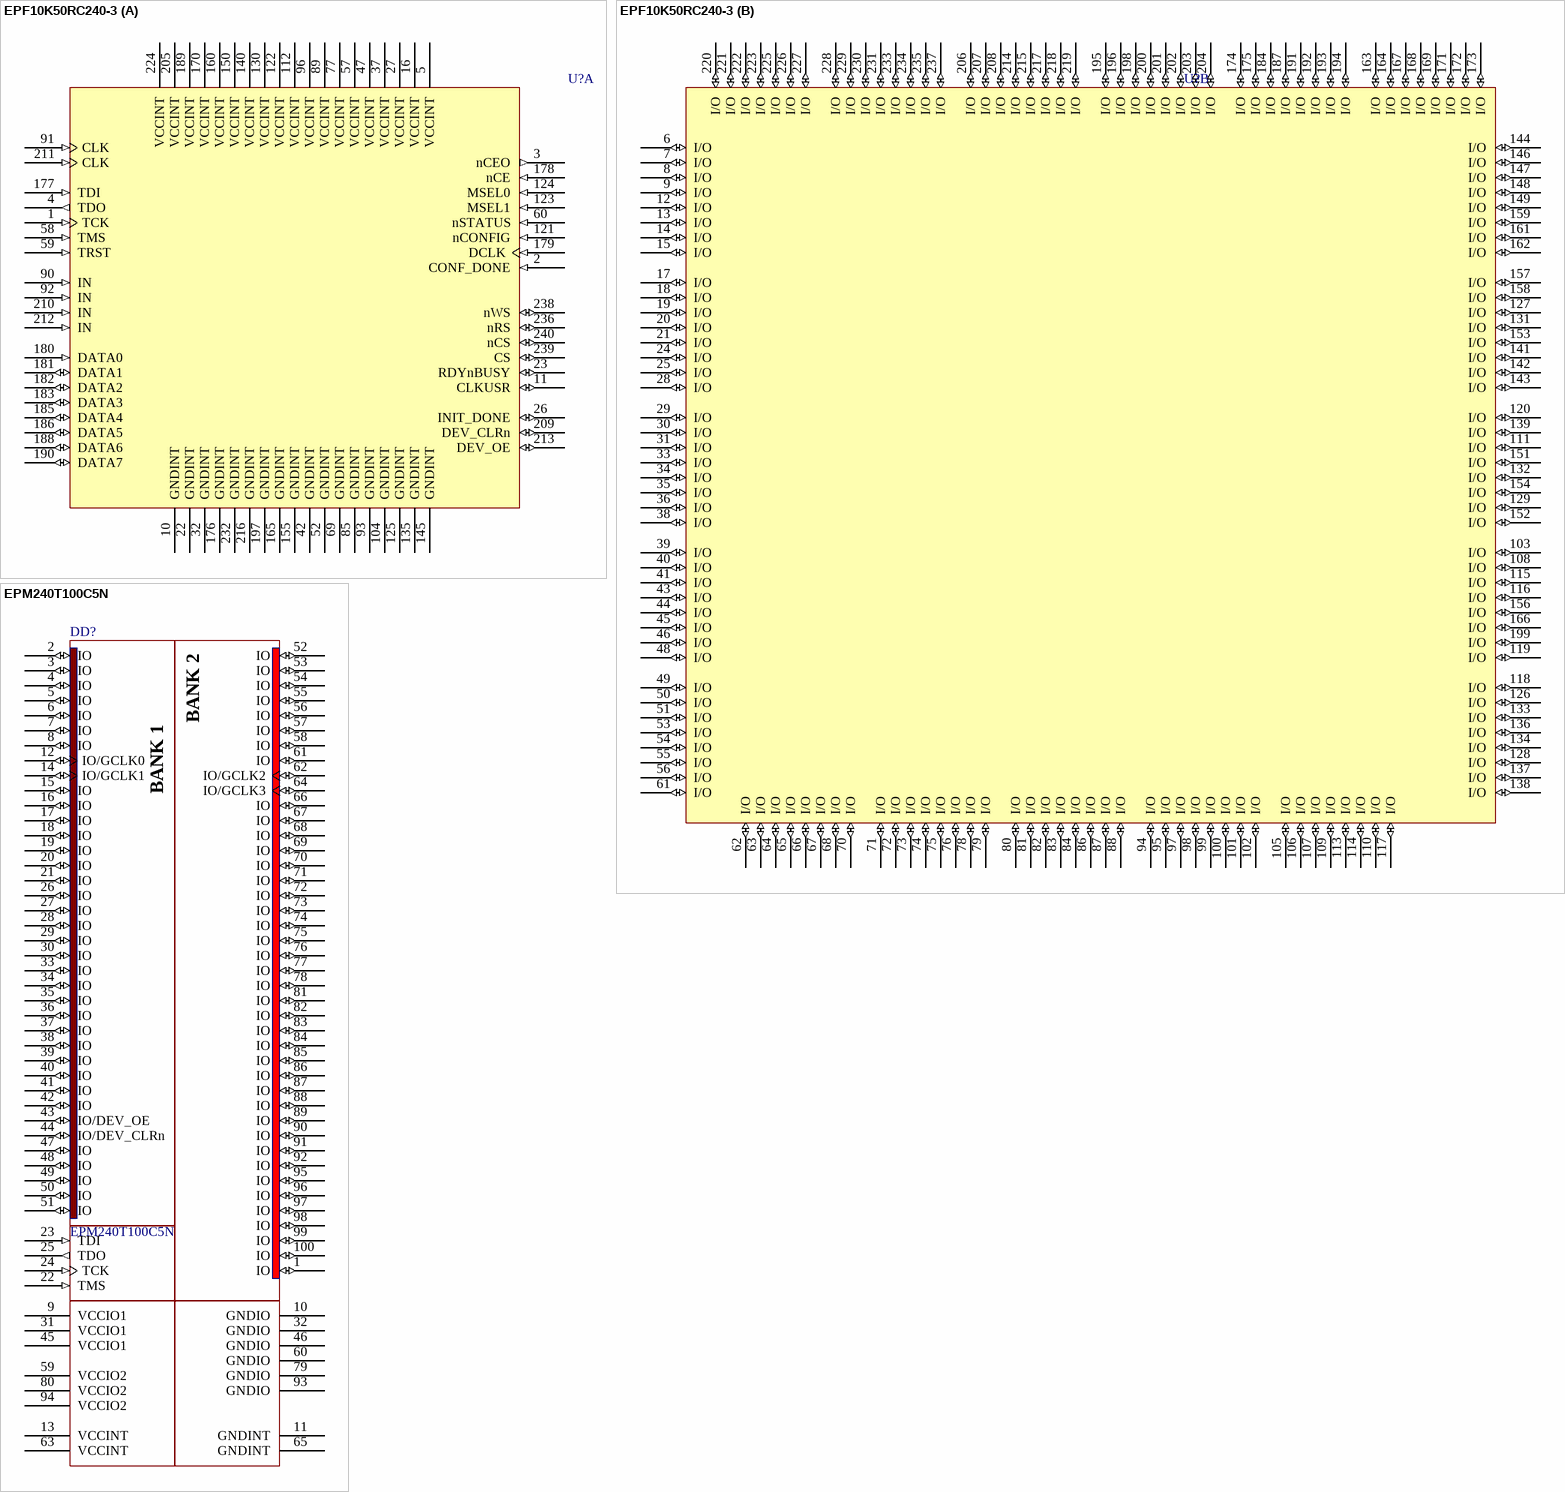
[diagram p10: symbols EPF10K50RC240-3 to EPM240T100C5N]

## EPF10K50RC240-3
designator U?
FLEX EPF10K50 5.0V Embedded PLD, 189 User IO Pins, 240-Pin RQFP, Speed Grade 3, Commercial Grade; Published: 24-Nov-2000; LatestRevisionDate: 13-Apr-2006; LatestRevisionNote: IPC-7351 Footprint Added.; DatasheetVersion: ver4.2, Jan-2003; PackageVersion: ver14.2, Oct-2005; PackageReference: RQFP240; Publisher: Altium Limited; PackageDescription: 240-Pin Power Quad Flat Pack (RQFP240); Supplier 1: Digi-Key; Supplier Part Number 1: 544-2238-ND; Code_JEDEC: MS-029-GA; ComponentLink1Description: Manufacturer Link; ComponentLink1URL: http://www.altera.com/products/devices/flex10k/f10-index.html; ComponentLink2Description: Datasheet; ComponentLink2URL: http://www.altera.com/literature/ds/dsf10k.pdf
footprint RQFP240_N (Shrink QFP, 240-Leads, Body 32x32mm, Pitch 0.5mm, IPC Medium Density)
footprint RQFP240_L (Shrink QFP, 240-Leads, Body 32x32mm, Pitch 0.5mm, IPC High Density)
footprint RQFP240_M (Shrink QFP, 240-Leads, Body 32x32mm, Pitch 0.5mm, IPC Low Density)
3D model EPF10K50-RQFP240 (240-Pin Power Quad Flat Pack (RQFP240))
part A pins: 1 TCK (in), 2 CONF_DONE (in), 3 nCEO (out), 4 TDO (out), 5 VCCINT (power), 10 GNDINT (power), 11 CLKUSR (io), 16 VCCINT (power), 22 GNDINT (power), 23 RDYnBUSY (io), 26 INIT_DONE (io), 27 VCCINT (power), 32 GNDINT (power), 37 VCCINT (power), 42 GNDINT (power), 47 VCCINT (power), 52 GNDINT (power), 57 VCCINT (power), 58 TMS (in), 59 TRST (in), 60 nSTATUS (in), 69 GNDINT (power), 77 VCCINT (power), 85 GNDINT (power), 89 VCCINT (power), 90 IN (in), 91 CLK (in), 92 IN (in), 93 GNDINT (power), 96 VCCINT (power), 104 GNDINT (power), 112 VCCINT (power), 121 nCONFIG (in), 122 VCCINT (power), 123 MSEL1 (in), 124 MSEL0 (in), 125 GNDINT (power), 130 VCCINT (power), 135 GNDINT (power), 140 VCCINT (power), 145 GNDINT (power), 150 VCCINT (power), 155 GNDINT (power), 160 VCCINT (power), 165 GNDINT (power), 170 VCCINT (power), 176 GNDINT (power), 177 TDI (in), 178 nCE (in), 179 DCLK (in), 180 DATA0 (in), 181 DATA1 (io), 182 DATA2 (io), 183 DATA3 (io), 185 DATA4 (io), 186 DATA5 (io), 188 DATA6 (io), 189 VCCINT (power), 190 DATA7 (io), 197 GNDINT (power), 205 VCCINT (power), 209 DEV_CLRn (io), 210 IN (in), 211 CLK (in), 212 IN (in), 213 DEV_OE (io), 216 GNDINT (power), 224 VCCINT (power), 232 GNDINT (power), 236 nRS (io), 238 nWS (io), 239 CS (io), 240 nCS (io)
part B pins: 6 I/O (io), 7 I/O (io), 8 I/O (io), 9 I/O (io), 12 I/O (io), 13 I/O (io), 14 I/O (io), 15 I/O (io), 17 I/O (io), 18 I/O (io), 19 I/O (io), 20 I/O (io), 21 I/O (io), 24 I/O (io), 25 I/O (io), 28 I/O (io), 29 I/O (io), 30 I/O (io), 31 I/O (io), 33 I/O (io), 34 I/O (io), 35 I/O (io), 36 I/O (io), 38 I/O (io), 39 I/O (io), 40 I/O (io), 41 I/O (io), 43 I/O (io), 44 I/O (io), 45 I/O (io), 46 I/O (io), 48 I/O (io), 49 I/O (io), 50 I/O (io), 51 I/O (io), 53 I/O (io), 54 I/O (io), 55 I/O (io), 56 I/O (io), 61 I/O (io), 62 I/O (io), 63 I/O (io), 64 I/O (io), 65 I/O (io), 66 I/O (io), 67 I/O (io), 68 I/O (io), 70 I/O (io), 71 I/O (io), 72 I/O (io), 73 I/O (io), 74 I/O (io), 75 I/O (io), 76 I/O (io), 78 I/O (io), 79 I/O (io), 80 I/O (io), 81 I/O (io), 82 I/O (io), 83 I/O (io), 84 I/O (io), 86 I/O (io), 87 I/O (io), 88 I/O (io), 94 I/O (io), 95 I/O (io), 97 I/O (io), 98 I/O (io), 99 I/O (io), 100 I/O (io), 101 I/O (io), 102 I/O (io), 103 I/O (io), 105 I/O (io), 106 I/O (io), 107 I/O (io), 108 I/O (io), 109 I/O (io), 110 I/O (io), 111 I/O (io), 113 I/O (io), 114 I/O (io), 115 I/O (io), 116 I/O (io), 117 I/O (io), 118 I/O (io), 119 I/O (io), 120 I/O (io), 126 I/O (io), 127 I/O (io), 128 I/O (io), 129 I/O (io), 131 I/O (io), 132 I/O (io), 133 I/O (io), 134 I/O (io), 136 I/O (io), 137 I/O (io), 138 I/O (io), 139 I/O (io), 141 I/O (io), 142 I/O (io), 143 I/O (io), 144 I/O (io), 146 I/O (io), 147 I/O (io), 148 I/O (io), 149 I/O (io), 151 I/O (io), 152 I/O (io), 153 I/O (io), 154 I/O (io), 156 I/O (io), 157 I/O (io), 158 I/O (io), 159 I/O (io), 161 I/O (io), 162 I/O (io), 163 I/O (io), 164 I/O (io), 166 I/O (io), 167 I/O (io), 168 I/O (io), 169 I/O (io), 171 I/O (io), 172 I/O (io), 173 I/O (io), 174 I/O (io), 175 I/O (io), 184 I/O (io), 187 I/O (io), 191 I/O (io), 192 I/O (io), 193 I/O (io), 194 I/O (io), 195 I/O (io), 196 I/O (io), 198 I/O (io), 199 I/O (io), 200 I/O (io), 201 I/O (io), 202 I/O (io), 203 I/O (io), 204 I/O (io), 206 I/O (io), 207 I/O (io), 208 I/O (io), 214 I/O (io), 215 I/O (io), 217 I/O (io), 218 I/O (io), 219 I/O (io), 220 I/O (io), 221 I/O (io), 222 I/O (io), 223 I/O (io), 225 I/O (io), 226 I/O (io), 227 I/O (io), 228 I/O (io), 229 I/O (io), 230 I/O (io), 231 I/O (io), 233 I/O (io), 234 I/O (io), 235 I/O (io), 237 I/O (io)

## EPM240T100C5N
designator DD?
MAX II 3.3/2.5V CPLD, 80 IOs, 240 Logic Elements, 100-Pin Plastic TQFP, Commercial Temperature, Speed Grade 5, Pb-Free; Note: Each set of VCCIO pins can be connected to 3.3V, 2.5V, 1.8V, or 1.5V.; Note: All VCCINT pins must be connected to either 3.3V or 2.5V (but not a combination of both).; Published: 4-Mar-2005; LatestRevisionDate: 13-Apr-2006; LatestRevisionNote: IPC-7351 Footprint Added.; DatasheetVersion: ver1.8, Jul-2006; PackageVersion: ver15.1, May-2008; PackageReference: TQFP100; Publisher: Altium Limited; PackageDescription: 100-Pin Plastic Thin Quad Flat Pack (TQFP100) - Wire Bond; Supplier 1: Digi-Key; Supplier Part Number 1: 544-1964-ND; Supplier 2: Farnell; Supplier Part Number 2: 1662268; Supplier 3: Farnell; Supplier Part Number 3: 1453503; Code_JEDEC: MS-026-AED; ComponentLink1Description: Manufacturer Link; ComponentLink1URL: http://www.altera.com/products/devices/cpld/max2/mx2-index.jsp; ComponentLink2Description: Handbook; ComponentLink2URL: http://www.altera.com/literature/hb/max2/max2_mii5v1.pdf; ComponentLink3Description: Packaging Specification; ComponentLink3URL: http://www.altera.com/literature/ds/dspkg.pdf
pins: 1 IO (io), 2 IO (io), 3 IO (io), 4 IO (io), 5 IO (io), 6 IO (io), 7 IO (io), 8 IO (io), 9 VCCIO1 (power), 10 GNDIO (power), 11 GNDINT (power), 12 IO/GCLK0 (io), 13 VCCINT (power), 14 IO/GCLK1 (io), 15 IO (io), 16 IO (io), 17 IO (io), 18 IO (io), 19 IO (io), 20 IO (io), 21 IO (io), 22 TMS (in), 23 TDI (in), 24 TCK (in), 25 TDO (out), 26 IO (io), 27 IO (io), 28 IO (io), 29 IO (io), 30 IO (io), 31 VCCIO1 (power), 32 GNDIO (power), 33 IO (io), 34 IO (io), 35 IO (io), 36 IO (io), 37 IO (io), 38 IO (io), 39 IO (io), 40 IO (io), 41 IO (io), 42 IO (io), 43 IO/DEV_OE (io), 44 IO/DEV_CLRn (io), 45 VCCIO1 (power), 46 GNDIO (power), 47 IO (io), 48 IO (io), 49 IO (io), 50 IO (io), 51 IO (io), 52 IO (io), 53 IO (io), 54 IO (io), 55 IO (io), 56 IO (io), 57 IO (io), 58 IO (io), 59 VCCIO2 (power), 60 GNDIO (power), 61 IO (io), 62 IO/GCLK2 (io), 63 VCCINT (power), 64 IO/GCLK3 (io), 65 GNDINT (power), 66 IO (io), 67 IO (io), 68 IO (io), 69 IO (io), 70 IO (io), 71 IO (io), 72 IO (io), 73 IO (io), 74 IO (io), 75 IO (io), 76 IO (io), 77 IO (io), 78 IO (io), 79 GNDIO (power), 80 VCCIO2 (power), 81 IO (io), 82 IO (io), 83 IO (io), 84 IO (io), 85 IO (io), 86 IO (io), 87 IO (io), 88 IO (io), 89 IO (io), 90 IO (io), 91 IO (io), 92 IO (io), 93 GNDIO (power), 94 VCCIO2 (power), 95 IO (io), 96 IO (io), 97 IO (io), 98 IO (io), 99 IO (io), 100 IO (io)
text: BANK 1; BANK 2

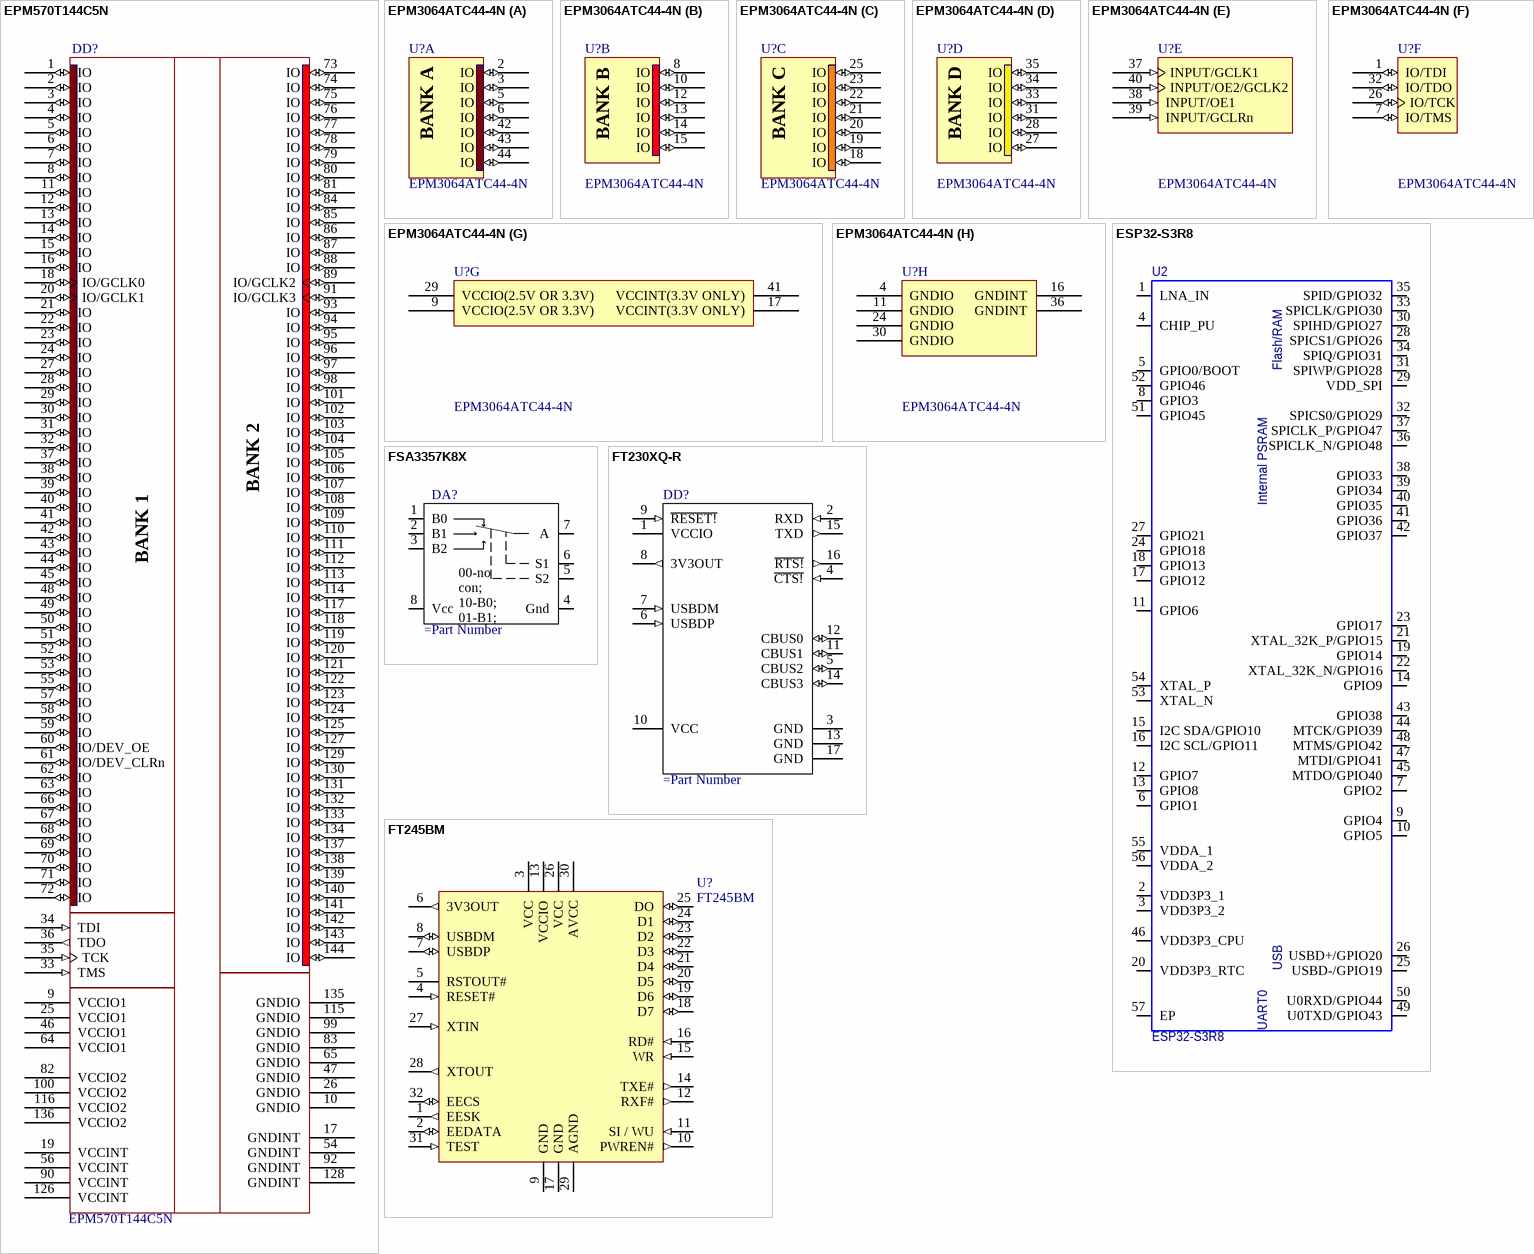
[diagram p11: symbols EPM570T144C5N to FT245BM]

## EPM570T144C5N
designator DD?
MAX II 3.3/2.5V CPLD, 116 IOs, 570 Logic Elements, 144-Pin Plastic TQFP, Commercial Temperature, Speed Grade 5, Pb-Free; Note: Each set of VCCIO pins can be connected to 3.3V, 2.5V, 1.8V, or 1.5V.; Note: All VCCINT pins must be connected to either 3.3V or 2.5V (but not a combination of both).; Published: 4-Mar-2005; LatestRevisionDate: 13-Apr-2006; LatestRevisionNote: IPC-7351 Footprint Added.; DatasheetVersion: ver1.8, Jul-2006; PackageVersion: ver15.4, Dec-2008; PackageReference: TQFP144; Publisher: Altium Limited; PackageDescription: 144-Pin Plastic Thin Quad Flat Pack (TQFP144) - Wire Bond; Supplier 1: Digi-Key; Supplier Part Number 1: 544-1320-ND; Supplier 2: Farnell; Supplier Part Number 2: 1635099; Code_JEDEC: MS-026-BFB; ComponentLink1Description: Manufacturer Link; ComponentLink1URL: http://www.altera.com/products/devices/cpld/max2/mx2-index.jsp; ComponentLink2Description: Handbook; ComponentLink2URL: http://www.altera.com/literature/hb/max2/max2_mii5v1.pdf; ComponentLink3Description: Packaging Specification; ComponentLink3URL: http://www.altera.com/literature/ds/dspkg.pdf
pins: 1 IO (io), 2 IO (io), 3 IO (io), 4 IO (io), 5 IO (io), 6 IO (io), 7 IO (io), 8 IO (io), 9 VCCIO1 (power), 10 GNDIO (power), 11 IO (io), 12 IO (io), 13 IO (io), 14 IO (io), 15 IO (io), 16 IO (io), 17 GNDINT (power), 18 IO/GCLK0 (io), 19 VCCINT (power), 20 IO/GCLK1 (io), 21 IO (io), 22 IO (io), 23 IO (io), 24 IO (io), 25 VCCIO1 (power), 26 GNDIO (power), 27 IO (io), 28 IO (io), 29 IO (io), 30 IO (io), 31 IO (io), 32 IO (io), 33 TMS (in), 34 TDI (in), 35 TCK (in), 36 TDO (out), 37 IO (io), 38 IO (io), 39 IO (io), 40 IO (io), 41 IO (io), 42 IO (io), 43 IO (io), 44 IO (io), 45 IO (io), 46 VCCIO1 (power), 47 GNDIO (power), 48 IO (io), 49 IO (io), 50 IO (io), 51 IO (io), 52 IO (io), 53 IO (io), 54 GNDINT (power), 55 IO (io), 56 VCCINT (power), 57 IO (io), 58 IO (io), 59 IO (io), 60 IO/DEV_OE (io), 61 IO/DEV_CLRn (io), 62 IO (io), 63 IO (io), 64 VCCIO1 (power), 65 GNDIO (power), 66 IO (io), 67 IO (io), 68 IO (io), 69 IO (io), 70 IO (io), 71 IO (io), 72 IO (io), 73 IO (io), 74 IO (io), 75 IO (io), 76 IO (io), 77 IO (io), 78 IO (io), 79 IO (io), 80 IO (io), 81 IO (io), 82 VCCIO2 (power), 83 GNDIO (power), 84 IO (io), 85 IO (io), 86 IO (io), 87 IO (io), 88 IO (io), 89 IO/GCLK2 (io), 90 VCCINT (power), 91 IO/GCLK3 (io), 92 GNDINT (power), 93 IO (io), 94 IO (io), 95 IO (io), 96 IO (io), 97 IO (io), 98 IO (io), 99 GNDIO (power), 100 VCCIO2 (power), 101 IO (io), 102 IO (io), 103 IO (io), 104 IO (io), 105 IO (io), 106 IO (io), 107 IO (io), 108 IO (io), 109 IO (io), 110 IO (io), 111 IO (io), 112 IO (io), 113 IO (io), 114 IO (io), 115 GNDIO (power), 116 VCCIO2 (power), 117 IO (io), 118 IO (io), 119 IO (io), 120 IO (io), 121 IO (io), 122 IO (io), 123 IO (io), 124 IO (io), 125 IO (io), 126 VCCINT (power), 127 IO (io), 128 GNDINT (power), 129 IO (io), 130 IO (io), 131 IO (io), 132 IO (io), 133 IO (io), 134 IO (io), 135 GNDIO (power), 136 VCCIO2 (power), 137 IO (io), 138 IO (io), 139 IO (io), 140 IO (io), 141 IO (io), 142 IO (io), 143 IO (io), 144 IO (io)
text: BANK 1; BANK 2

## EPM3064ATC44-4N
designator U?
MAX 3064A 3.3V CPLD, 34 IOs, 44-Pin Plastic TFQP, Commercial Temperature, Speed Grade 4, Pb-Free; Published: 4-Mar-2005; LatestRevisionDate: 13-Apr-2006; LatestRevisionNote: IPC-7351 Footprint Added.; DatasheetVersion: ver3.5, Jun-2006; PackageVersion: ver14.3, Jul-2006; PackageReference: TQFP44; Publisher: Altium Limited; PackageDescription: 44-Pin Plastic Thin Quad Flat Pack (TFQP44); Supplier 1: Digi-Key; Supplier Part Number 1: 544-1978-ND; Supplier 2: Farnell; Supplier Part Number 2: 1549419; Code_JEDEC: MS-026-ACB; ComponentLink1Description: Manufacturer Link; ComponentLink1URL: http://www.altera.com/products/devices/max3k/m3k-index.html; ComponentLink2Description: Datasheet; ComponentLink2URL: http://www.altera.com/literature/ds/m3000a.pdf; ComponentLink3Description: Packaging Specification; ComponentLink3URL: http://www.altera.com/literature/ds/dspkg.pdf
part A pins: 2 IO (io), 3 IO (io), 5 IO (io), 6 IO (io), 42 IO (io), 43 IO (io), 44 IO (io)
part B pins: 8 IO (io), 10 IO (io), 12 IO (io), 13 IO (io), 14 IO (io), 15 IO (io)
part C pins: 18 IO (io), 19 IO (io), 20 IO (io), 21 IO (io), 22 IO (io), 23 IO (io), 25 IO (io)
part D pins: 27 IO (io), 28 IO (io), 31 IO (io), 33 IO (io), 34 IO (io), 35 IO (io)
part E pins: 37 INPUT/GCLK1 (in), 38 INPUT/OE1 (in), 39 INPUT/GCLRn (in), 40 INPUT/OE2/GCLK2 (in)
part F pins: 1 IO/TDI (io), 7 IO/TMS (io), 26 IO/TCK (io), 32 IO/TDO (io)
part G pins: 9 VCCIO(2.5V OR 3.3V) (power), 17 VCCINT(3.3V ONLY) (power), 29 VCCIO(2.5V OR 3.3V) (power), 41 VCCINT(3.3V ONLY) (power)
part H pins: 4 GNDIO (power), 11 GNDIO (power), 16 GNDINT (power), 24 GNDIO (power), 30 GNDIO (power), 36 GNDINT (power)
part A text: BANK A
part B text: BANK B
part C text: BANK C
part D text: BANK D

## ESP32-S3R8
designator U2
IC RF TXRX+MCU BLE 56QFN; Part Number: ESP32-S3R8; HelpURL: https://www.digikey.com/en/products/detail/espressif-systems/ESP32-S3R8/15822451; Manufacturer Part Number: ESP32-S3R8
footprint QFN40P700X700X90-57N-D
pins: 1 LNA_IN, 2 VDD3P3_1, 3 VDD3P3_2, 4 CHIP_PU, 5 GPIO0/BOOT, 6 GPIO1, 7 GPIO2, 8 GPIO3, 9 GPIO4, 10 GPIO5, 11 GPIO6, 12 GPIO7, 13 GPIO8, 14 GPIO9, 15 I2C SDA/GPIO10, 16 I2C SCL/GPIO11, 17 GPIO12, 18 GPIO13, 19 GPIO14, 20 VDD3P3_RTC, 21 XTAL_32K_P/GPIO15, 22 XTAL_32K_N/GPIO16, 23 GPIO17, 24 GPIO18, 25 USBD-/GPIO19, 26 USBD+/GPIO20, 27 GPIO21, 28 SPICS1/GPIO26, 29 VDD_SPI, 30 SPIHD/GPIO27, 31 SPIWP/GPIO28, 32 SPICS0/GPIO29, 33 SPICLK/GPIO30, 34 SPIQ/GPIO31, 35 SPID/GPIO32, 36 SPICLK_N/GPIO48, 37 SPICLK_P/GPIO47, 38 GPIO33, 39 GPIO34, 40 GPIO35, 41 GPIO36, 42 GPIO37, 43 GPIO38, 44 MTCK/GPIO39, 45 MTDO/GPIO40, 46 VDD3P3_CPU, 47 MTDI/GPIO41, 48 MTMS/GPIO42, 49 U0TXD/GPIO43, 50 U0RXD/GPIO44, 51 GPIO45, 52 GPIO46, 53 XTAL_N, 54 XTAL_P, 55 VDDA_1, 56 VDDA_2, 57 EP
text: Flash/RAM; Internal PSRAM; USB; UART0

## FSA3357K8X
designator DA?
pins: 1 B0, 2 B1, 3 B2, 4 Gnd, 5 S2, 6 S1, 7 A, 8 Vcc
text: 00-no con; / 10-B0; / 01-B1; / 11-B2;

## FT230XQ-R
designator DD?
pins: 1 VCCIO (power), 2 RXD (in), 3 GND (power), 4 ~{CTS!} (in), 5 CBUS2 (io), 6 USBDP (in), 7 USBDM (in), 8 3V3OUT (out), 9 ~{RESET!} (in), 10 VCC (power), 11 CBUS1 (io), 12 CBUS0 (io), 13 GND (power), 14 CBUS3 (io), 15 TXD (out), 16 ~{RTS!} (out), 17 GND (power)

## FT245BM
designator U?
USB/Parallel FIFO Bi-Directional Data Transfer Chip, LQFP-32; Published: 6-Jun-2005; LatestRevisionDate: 13-Apr-2006; LatestRevisionNote: IPC-7351 Footprint Added.; DatasheetVersion: ver 1.7, Dec-2005; PackageVersion: 2004; PackageReference: LQFP-32; Publisher: Altium Limited; PackageDescription: 32-Pin Thin Quad Flat Pack 0.8 mm Pitch; ComponentLink1Description: Manufacturer Link; ComponentLink1URL: http://www.ftdichip.com/Products/ICs/FT245BM.htm; ComponentLink2Description: Datasheet; ComponentLink2URL: http://www.ftdichip.com/Support/Documents/DataSheets/ICs/DS_FT245BM.pdf
pins: 1 EESK (out) "Clock signal to EEPROM. Adding a 10K pull down resistor onto EESK will cause the FT245BM to use USB Product ID 6005 (hex) instead of 6001 (hex). All of the other USB device descriptors are unchanged.", 2 EEDATA (io) "EEPROM - Data I/O Connect directly to Data-In of the EEPROM and to Data-Out of the EEPROM via a 2.2K resistor. Also pull Data-Out of the EEPROM to VCC via a 10K resistor for correct operation.", 3 VCC (power) "+4.35 volt to +5.25 volt VCC to the device core, LDO and none-FIFO interface pins.", 4 RESET# (in) "Can be used by an external device to reset the FT245BM. If not required, tie to VCC.", 5 RSTOUT# (hiz) "Output of the internal Reset Generator. Stays high impedance for 5ms after VCC > 3.5V and the internal clock starts up, then clamps its output to the 3.3V output of the internal regulator.", 6 3V3OUT (out) "3.3 volt Output from the integrated L.D.O. regulator This pin should be decoupled to GND using a 33nF ceramic capacitor in close proximity to the device pin.", 7 USBDP (io) "USB Data Signal Plus (Requires 1.5K pull-up to 3V3OUT or RSTOUT#)", 8 USBDM (io) "USB Data Signal Minus", 9 GND (power) "Device - Ground Supply Pins", 10 PWREN# (out) "Goes Low after the device is configured via USB, then high during USB suspend. Can be used to control power to external logic using a P-Channel MOSFET switch. Enable the Interface Pull-Down Option in EEPROM when using the PWREN# pin in this way.", 11 SI / WU (in) "Send Immediate / WakeUp. Tie this pin to VCCIO if not used.", 12 RXF# (out) "When high, do not read data from the FIFO. When low, there is data available in the FIFO which can be read by strobing RD# low then high again.", 13 VCCIO (power) "+3.0 volt to +5.25 volt VCC to the FIFO interface pins 10..12, 14..16 and 18..25.", 14 TXE# (out) "When high, do not write data into the FIFO. When low, data can be written into the FIFO by strobing WR high then low.", 15 WR (in) "Writes the Data Byte on the D0..D7 into the Transmit FIFO Buffer when WR goes from high to low.", 16 RD# (in) "Enables Current FIFO Data Byte on D0..D7 when low. Fetches the next FIFO Data Byte (if available) from the Receive FIFO Buffer when RD# goes from low to high.", 17 GND (power) "Device - Ground Supply Pins", 18 D7 (io) "FIFO Data Bus Bit 7", 19 D6 (io) "FIFO Data Bus Bit 6", 20 D5 (io) "FIFO Data Bus Bit 5", 21 D4 (io) "FIFO Data Bus Bit 4", 22 D3 (io) "FIFO Data Bus Bit 3", 23 D2 (io) "FIFO Data Bus Bit 2", 24 D1 (io) "FIFO Data Bus Bit 1", 25 DO (io) "FIFO Data Bus Bit 0", 26 VCC (power) "+4.35 volt to +5.25 volt VCC to the device core, LDO and none-FIFO interface pins.", 27 XTIN (in) "Input to 6MHz Crystal Oscillator. Can also be driven by an external 6MHz clock. Note : Switching threshold of this pin is VCC/2, so if driving from an external source, the source must be driving at 5V CMOS level or a.c. coupled to centre around VCC/2.", 28 XTOUT (out) "Output from 6MHz Crystal Oscillator Cell. XTOUT stops oscillating during USB suspend, so take care if using this signal to clock external logic.", 29 AGND (power) "Device - Analog Ground Supply for the internal x8 clock multiplier", 30 AVCC (power) "Device - Analog Power Supply for the internal x8 clock multiplier", 31 TEST (in) "Puts device in I.C. test mode – must be tied to GND for normal operation.", 32 EECS (io) "EEPROM - Chip Select. For 48MHz operation pull EECS to GND using a 10K resistor. For 6MHz operation no resistor is required."

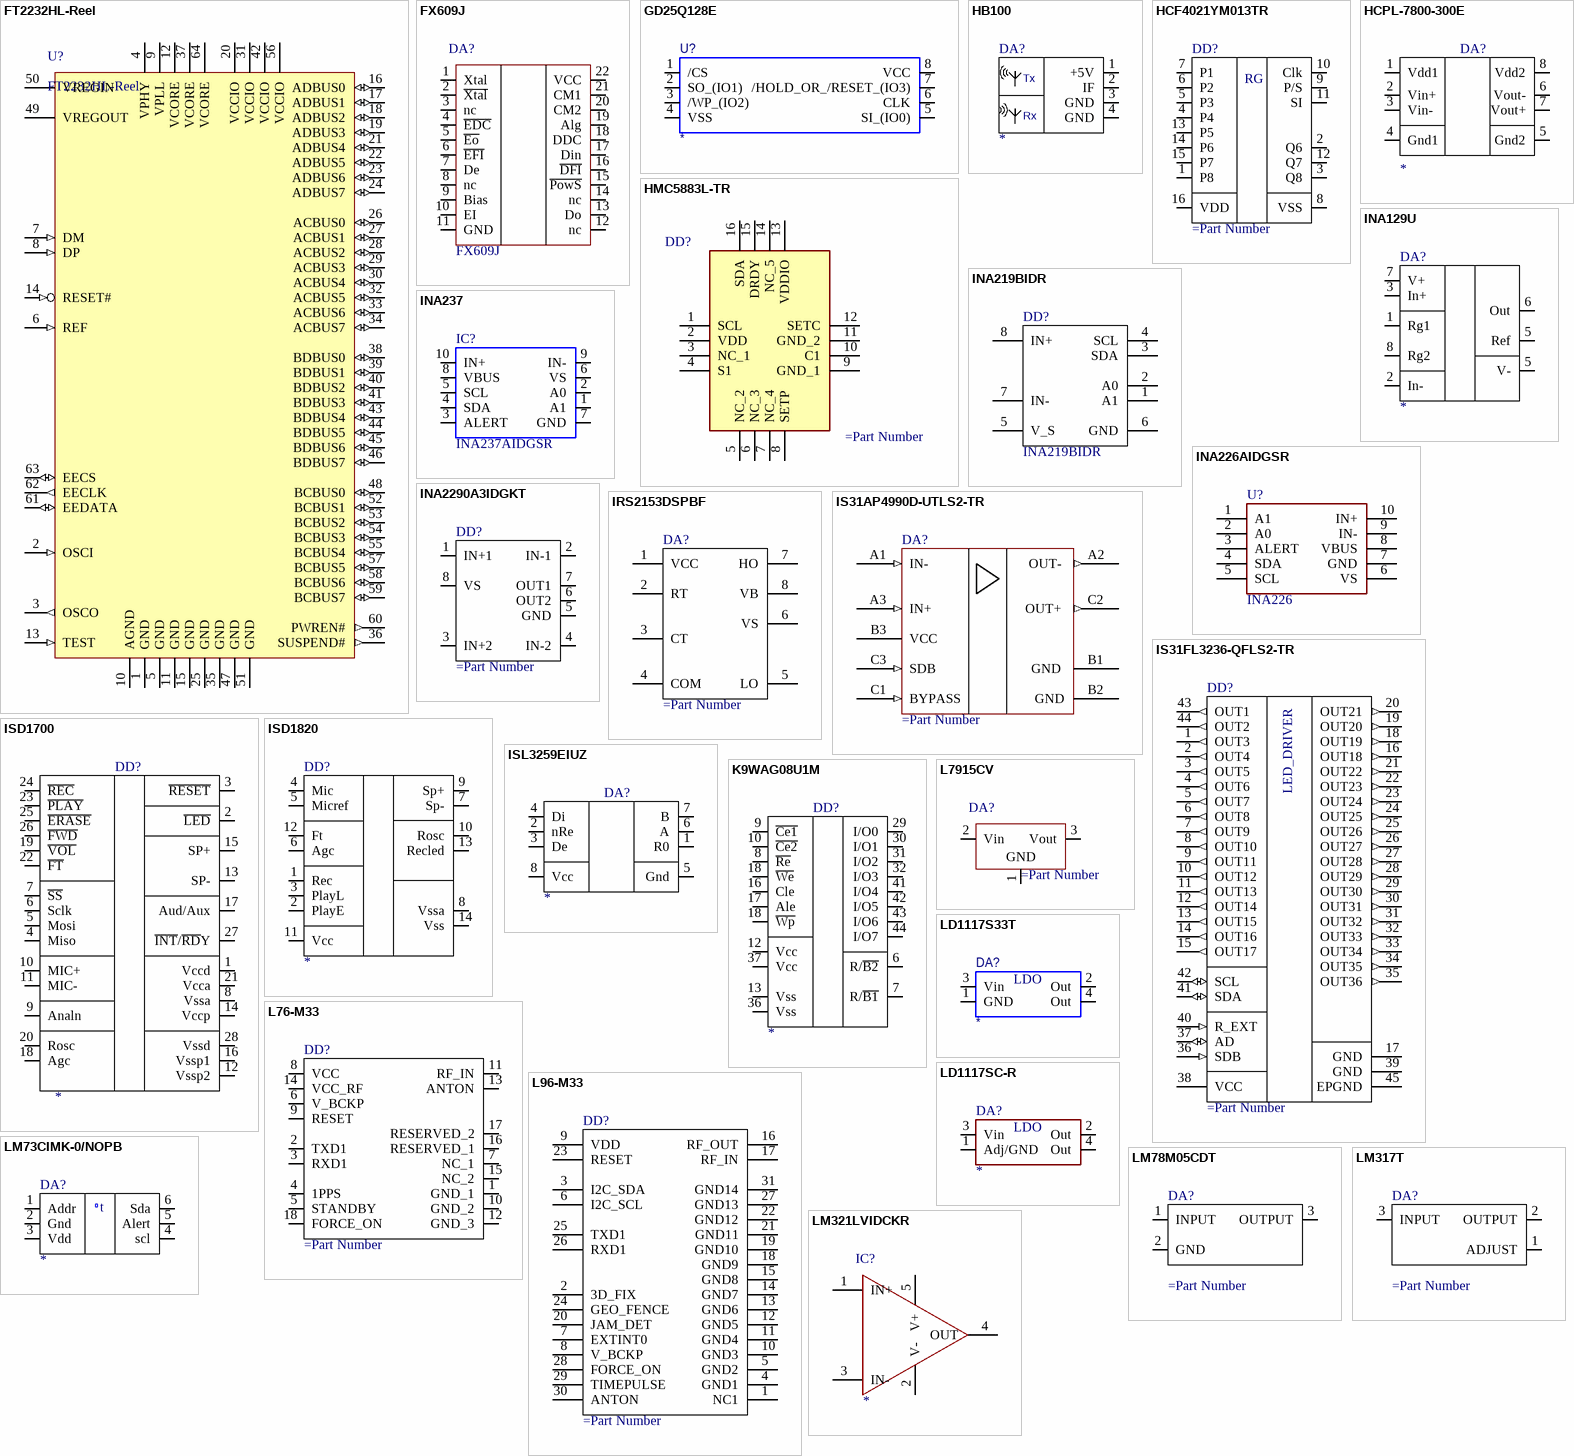
[diagram p12: symbols FT2232HL-Reel to LM321LVIDCKR]

## FT2232HL-Reel
designator U?
Dual High Speed USB To Multipurpose UART/FIFO IC, LQFP-64, Tape and Reel; Published: 19-Aug-2010; DatasheetVersion: ver 2.08, May-2010; PackageVersion: 2010; PackageReference: LQFP-64; Publisher: Altium Limited; PackageDescription: 64-Pin Thin Quad Flat Pack, 10 x 10 x 1.4 mm Body, 0.5 mm Pitch; ComponentLink1Description: Manufacturer Link; ComponentLink1URL: http://www.ftdichip.com/Products/ICs/FT2232H.htm; ComponentLink2Description: Datasheet; ComponentLink2URL: http://www.ftdichip.com/Support/Documents/DataSheets/ICs/DS_FT2232H.pdf
pins: 1 GND (power), 2 OSCI (in), 3 OSCO (out), 4 VPHY (power), 5 GND (power), 6 REF (in), 7 DM (in), 8 DP (in), 9 VPLL (power), 10 AGND (power), 11 GND (power), 12 VCORE (power), 13 TEST (in), 14 RESET# (in), 15 GND (power), 16 ADBUS0 (io), 17 ADBUS1 (io), 18 ADBUS2 (io), 19 ADBUS3 (io), 20 VCCIO (power), 21 ADBUS4 (io), 22 ADBUS5 (io), 23 ADBUS6 (io), 24 ADBUS7 (io), 25 GND (power), 26 ACBUS0 (io), 27 ACBUS1 (io), 28 ACBUS2 (io), 29 ACBUS3 (io), 30 ACBUS4 (io), 31 VCCIO (power), 32 ACBUS5 (io), 33 ACBUS6 (io), 34 ACBUS7 (io), 35 GND (power), 36 SUSPEND# (out), 37 VCORE (power), 38 BDBUS0 (io), 39 BDBUS1 (io), 40 BDBUS2 (io), 41 BDBUS3 (io), 42 VCCIO (power), 43 BDBUS4 (io), 44 BDBUS5 (io), 45 BDBUS6 (io), 46 BDBUS7 (io), 47 GND (power), 48 BCBUS0 (io), 49 VREGOUT (power), 50 VREGIN (power), 51 GND (power), 52 BCBUS1 (io), 53 BCBUS2 (io), 54 BCBUS3 (io), 55 BCBUS4 (io), 56 VCCIO (power), 57 BCBUS5 (io), 58 BCBUS6 (io), 59 BCBUS7 (io), 60 PWREN# (out), 61 EEDATA (io), 62 EECLK (out), 63 EECS (io), 64 VCORE (power)

## FX609J
designator DA?
pins: 1 Xtal, 2 ~{Xtal}, 3 nc, 4 ~{EDC}, 5 ~{Eo}, 6 ~{EFI}, 7 De, 8 nc, 9 Bias, 10 EI, 11 GND, 12 nc, 13 Do, 14 nc, 15 ~{PowS}, 16 ~{DFI}, 17 Din, 18 DDC, 19 Alg, 20 CM2, 21 CM1, 22 VCC

## GD25Q128E
designator U?
pins: 1 /CS, 2 SO_(IO1), 3 /WP_(IO2), 4 VSS, 5 SI_(IO0), 6 CLK, 7 /HOLD_OR_/RESET_(IO3), 8 VCC

## HB100
designator DA?
pins: 1 +5V, 2 IF, 3 GND, 4 GND
text: Tx; Rx

## HCF4021YM013TR
designator DD?
pins: 1 P8, 2 Q6, 3 Q8, 4 P4, 5 P3, 6 P2, 7 P1, 8 VSS, 9 P/S, 10 Clk, 11 SI, 12 Q7, 13 P5, 14 P6, 15 P7, 16 VDD
text: RG

## HCPL-7800-300E
designator DA?
pins: 1 Vdd1, 2 Vin+, 3 Vin-, 4 Gnd1, 5 Gnd2, 6 Vout-, 7 Vout+, 8 Vdd2

## HMC5883L-TR
designator DD?
pins: 1 SCL, 2 VDD, 3 NC_1, 4 S1, 5 NC_2, 6 NC_3, 7 NC_4, 8 SETP, 9 GND_1, 10 C1, 11 GND_2, 12 SETC, 13 VDDIO, 14 NC_5, 15 DRDY, 16 SDA

## INA129U
designator DA?
pins: 1 Rg1, 2 In-, 3 In+, 5 V-, 5 Ref, 6 Out, 7 V+, 8 Rg2

## INA219BIDR
designator DD?
Integrated Circuit; Manufacturer_Name: Texas Instruments; Datasheet Link: https://www.ti.com/lit/ds/symlink/ina219.pdf?HQS=TI-null-null-digikeymode-df-pf-null-wwe&ts=1601223553719; Height: 1.75mm; Manufacturer_Part_Number: INA219BIDR; Mouser Part Number: 595-INA219BIDR; Mouser Price/Stock: https://www.mouser.co.uk/ProductDetail/Texas-Instruments/INA219BIDR?qs=1WmUhT%2FVMINyGsXNJcdD5Q%3D%3D; Arrow Part Number: INA219BIDR; Arrow Price/Stock: https://www.arrow.com/en/products/ina219bidr/texas-instruments
footprint SOIC127P600X175-8N
pins: 1 A1, 2 A0, 3 SDA, 4 SCL, 5 V_S, 6 GND, 7 IN-, 8 IN+

## INA226AIDGSR
designator U?, comment INA226
pins: 1 A1, 2 A0, 3 ALERT, 4 SDA, 5 SCL, 6 VS, 7 GND, 8 VBUS, 9 IN-, 10 IN+

## INA237
designator IC?, comment INA237AIDGSR
Integrated Circuit; Manufacturer_Name: Texas Instruments; Datasheet Link: https://www.ti.com/lit/gpn/INA237; Height: 1.1mm; Manufacturer_Part_Number: INA237AIDGSR; Mouser Part Number: 595-INA237AIDGSR; Mouser Price/Stock: https://www.mouser.co.uk/ProductDetail/Texas-Instruments/INA237AIDGSR?qs=CiayqK2gdcIU2cM0wwJ5Kg%3D%3D; Arrow Part Number: INA237AIDGSR; Arrow Price/Stock: https://www.arrow.com/en/products/ina237aidgsr/texas-instruments?utm_currency=USD&region=nac
footprint SOP50P490X110-10N
pins: 1 A1, 2 A0, 3 ALERT, 4 SDA, 5 SCL, 6 VS, 7 GND, 8 VBUS, 9 IN-, 10 IN+

## INA2290A3IDGKT
designator DD?
Integrated Circuit; Manufacturer_Name: Texas Instruments; Manufacturer_Part_Number: INA2290A3IDGKT; Datasheet Link: https://www.ti.com/lit/ds/symlink/ina2290.pdf?ts=1621368334350&ref_url=https%253A%252F%252Fwww.mouser.com%252F; Height: 1.1mm; Mouser Part Number: 595-INA2290A3IDGKT; Mouser Price/Stock: https://www.mouser.co.uk/ProductDetail/Texas-Instruments/INA2290A3IDGKT?qs=eP2BKZSCXI6Z6gfv45%2FAQw%3D%3D; Arrow Part Number: INA2290A3IDGKT; Arrow Price/Stock: https://www.arrow.com/en/products/ina2290a3idgkt/texas-instruments?region=nac
footprint SOP65P490X110-8N
pins: 1 IN+1, 2 IN-1, 3 IN+2, 4 IN-2, 5 GND, 6 OUT2, 7 OUT1, 8 VS

## IRS2153DSPBF
designator DA?
pins: 1 VCC, 2 RT, 3 CT, 4 COM, 5 LO, 6 VS, 7 HO, 8 VB

## IS31AP4990D-UTLS2-TR
designator DA?
pins: A1 IN- (in), A2 OUT-  (out), A3 IN+ (in), B1 GND , B2 GND, B3 VCC, C1 BYPASS (in), C2 OUT+  (out), C3 SDB (in)

## IS31FL3236-QFLS2-TR
designator DD?
pins: 1 OUT3 (out), 2 OUT4 (out), 3 OUT5 (out), 4 OUT6 (out), 5 OUT7 (out), 6 OUT8 (out), 7 OUT9 (out), 8 OUT10 (out), 9 OUT11 (out), 10 OUT12 (out), 11 OUT13 (out), 12 OUT14 (out), 13 OUT15 (out), 14 OUT16 (out), 15 OUT17 (out), 16 OUT18 (out), 17 GND (power), 18 OUT19 (out), 19 OUT20 (out), 20 OUT21 (out), 21 OUT22 (out), 22 OUT23 (out), 23 OUT24 (out), 24 OUT25 (out), 25 OUT26 (out), 26 OUT27 (out), 27 OUT28 (out), 28 OUT29 (out), 29 OUT30 (out), 30 OUT31 (out), 31 OUT32 (out), 32 OUT33 (out), 33 OUT34 (out), 34 OUT35 (out), 35 OUT36 (out), 36 SDB (in), 37 AD (io), 38 VCC (power), 39 GND (power), 40 R_EXT (in), 41 SDA (io), 42 SCL (io), 43 OUT1 (out), 44 OUT2 (out), 45 EPGND (power)
text: LED_DRIVER

## ISD1700
designator DD?
pins: 1 Vccd, 2 ~{LED}, 3 ~{RESET}, 4 Miso, 5 Mosi, 6 Sclk, 7 ~{SS}, 8 Vssa, 9 Analn, 10 MIC+, 11 MIC-, 12 Vssp2, 13 SP-, 14 Vccp, 15 SP+, 16 Vssp1, 17 Aud/Aux, 18 Agc, 19 ~{VOL}, 20 Rosc, 21 Vcca, 22 ~{FT}, 23 ~{PLAY}, 24 ~{REC}, 25 ~{ERASE}, 26 ~{FWD}, 27 ~{INT}/~{RD}Y, 28 Vssd

## ISD1820
designator DD?
pins: 1 Rec, 2 PlayE, 3 PlayL, 4 Mic, 5 Micref, 6 Agc, 7 Sp-, 8 Vssa, 9 Sp+, 10 Rosc, 11 Vcc, 12 Ft, 13 Recled, 14 Vss

## ISL3259EIUZ
designator DA?
pins: 1 R0, 2 nRe, 3 De, 4 Di, 5 Gnd, 6 A, 7 B, 8 Vcc

## K9WAG08U1M
designator DD?
pins: 6 R/~{B2}, 7 R/~{B1}, 8 ~{Re}, 9 ~{Ce1}, 10 ~{Ce2}, 12 Vcc, 13 Vss, 16 Cle, 17 Ale, 18 ~{We}, 18 ~{Wp}, 29 I/O0, 30 I/O1, 31 I/O2, 32 I/O3, 36 Vss, 37 Vcc, 41 I/O4, 42 I/O5, 43 I/O6, 44 I/O7